# Altium schematic symbol library BWRC.SchLib: 201 symbols (part 1 of 6)
Pins are listed as number, name and electrical type; pins without a type are passive.

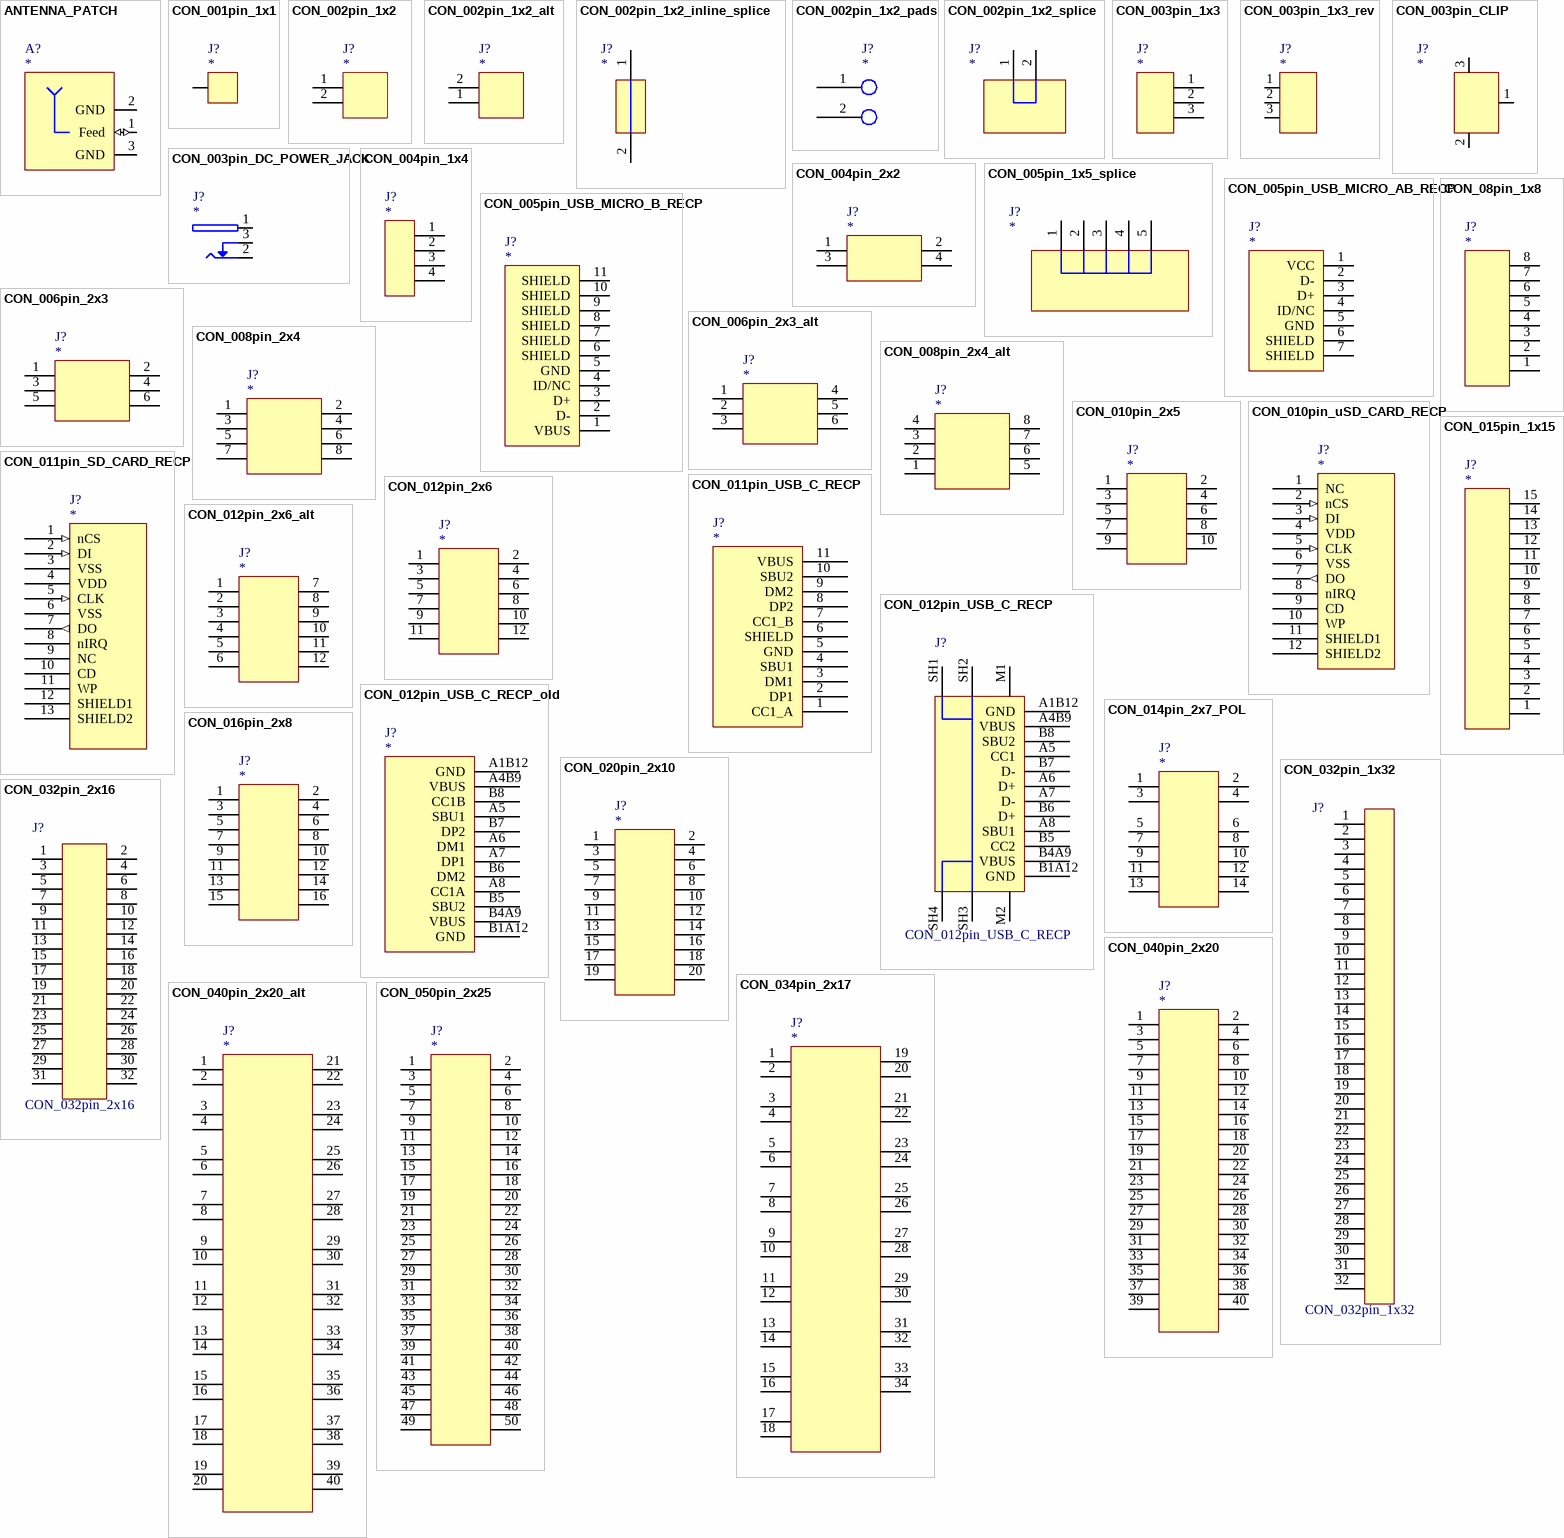
[diagram p0: symbols ANTENNA_PATCH to CON_050pin_2x25]

## ANTENNA_PATCH
designator A?
Patch antenna
pins: 1 Feed (io), 2 GND, 3 GND

## CON_001pin_1x1
designator J?
Con 1 pin
pins: 1

## CON_002pin_1x2
designator J?
Con 2 pins
pins: 1, 2

## CON_002pin_1x2_alt
designator J?
Con 2 pins
pins: 1, 2

## CON_002pin_1x2_inline_splice
designator J?
Con 2 inline splice
pins: 1, 2

## CON_002pin_1x2_pads
designator J?  (no BOM)
Con 2 pads
pins: 1, 2

## CON_002pin_1x2_splice
designator J?
Con 2 splice
pins: 1, 2

## CON_003pin_1x3
designator J?
Con 3 pins
pins: 1, 2, 3

## CON_003pin_1x3_rev
designator J?
Con 3 pins
pins: 1, 2, 3

## CON_003pin_CLIP
designator J?
Con 3 pins battery clip
pins: 1, 2, 3

## CON_003pin_DC_POWER_JACK
designator J?
Con 3 pin power jack
pins: 1 (power), 2, 3

## CON_004pin_1x4
designator J?
Con 4 pins 1x4
pins: 1, 2, 3, 4

## CON_004pin_2x2
designator J?
Con 4 pins 2x2
pins: 1, 2, 3, 4

## CON_005pin_1x5_splice
designator J?
Con 5 splice
pins: 1, 2, 3, 4, 5

## CON_005pin_USB_MICRO_AB_RECP
designator J?
Con 5 pin USB MicroAB receptacle
pins: 1 VCC, 2 D-, 3 D+, 4 ID/NC, 5 GND, 6 SHIELD, 7 SHIELD

## CON_005pin_USB_MICRO_B_RECP
designator J?
Con 5 pin USB Micro B receptacle
pins: 1 VBUS, 2 D-, 3 D+, 4 ID/NC, 5 GND, 6 SHIELD, 7 SHIELD, 8 SHIELD, 9 SHIELD, 10 SHIELD, 11 SHIELD

## CON_006pin_2x3
designator J?
Con 6 pins 2x3
pins: 1, 2, 3, 4, 5, 6

## CON_006pin_2x3_alt
designator J?
Con 6 pins 2x3
pins: 1, 2, 3, 4, 5, 6

## CON_08pin_1x8
designator J?
Con 8 pins
pins: 1, 2, 3, 4, 5, 6, 7, 8

## CON_008pin_2x4
designator J?
Con 8 pins 2x4
pins: 1, 2, 3, 4, 5, 6, 7, 8

## CON_008pin_2x4_alt
designator J?
Con 8 pins 2x4
pins: 1, 2, 3, 4, 5, 6, 7, 8

## CON_010pin_2x5
designator J?
Con 10 pins 2x5
pins: 1, 2, 3, 4, 5, 6, 7, 8, 9, 10

## CON_010pin_uSD_CARD_RECP
designator J?
Con 10 pins secure digital card slot (micro)
pins: 1 NC (hiz), 2 nCS (in), 3 DI (in), 4 VDD (power), 5 CLK (in), 6 VSS (power), 7 DO (out), 8 nIRQ (oc), 9 CD, 10 WP, 11 SHIELD1, 12 SHIELD2

## CON_011pin_SD_CARD_RECP
designator J?
Con 11 pins secure digital card slot (normal size)
pins: 1 nCS (in), 2 DI (in), 3 VSS (power), 4 VDD (power), 5 CLK (in), 6 VSS (power), 7 DO (out), 8 nIRQ (oc), 9 NC (hiz), 10 CD, 11 WP, 12 SHIELD1, 13 SHIELD2

## CON_011pin_USB_C_RECP
designator J?
Con 11 pin USB C receptacle
pins: 1 CC1_A, 2 DP1, 3 DM1, 4 SBU1, 5 GND, 6 SHIELD, 7 CC1_B, 8 DP2, 9 DM2, 10 SBU2, 11 VBUS

## CON_012pin_2x6
designator J?
Con 12 pins 2x6
pins: 1, 2, 3, 4, 5, 6, 7, 8, 9, 10, 11, 12

## CON_012pin_2x6_alt
designator J?
Con 12 pins 2x6
pins: 1, 2, 3, 4, 5, 6, 7, 8, 9, 10, 11, 12

## CON_012pin_USB_C_RECP
designator J?
Con 12 pin USB C receptacle + 4 shields, and 2 alignment posts
pins: A1B12 GND, A4B9 VBUS, A5 CC1, A6 D+, A7 D-, A8 SBU1, B1A12 GND, B4A9 VBUS, B5 CC2 (power), B6 D+, B7 D-, B8 SBU2, M1, M2, SH1, SH2, SH3, SH4

## CON_012pin_USB_C_RECP_old
designator J?
Con 12 pin USB C receptacle + 8 dummies, and 4 mounting posts
pins: A1B12 GND, A4B9 VBUS, A5 SBU1, A6 DM1, A7 DP1, A8 CC1A, B1A12 GND, B4A9 VBUS, B5 SBU2 (power), B6 DM2, B7 DP2, B8 CC1B

## CON_014pin_2x7_POL
designator J?
Con 14 pins 2x7 polarized
pins: 1, 2, 3, 4, 5, 6, 7, 8, 9, 10, 11, 12, 13, 14

## CON_015pin_1x15
designator J?
Con 15 pins
pins: 1, 2, 3, 4, 5, 6, 7, 8, 9, 10, 11, 12, 13, 14, 15

## CON_016pin_2x8
designator J?
Con 16 pins 2x8
pins: 1, 2, 3, 4, 5, 6, 7, 8, 9, 10, 11, 12, 13, 14, 15, 16

## CON_020pin_2x10
designator J?
Con 20 pins 2x10
pins: 1, 2, 3, 4, 5, 6, 7, 8, 9, 10, 11, 12, 13, 14, 15, 16, 17, 18, 19, 20

## CON_032pin_1x32
designator J?
Con 32 pins 1x32
pins: 1, 2, 3, 4, 5, 6, 7, 8, 9, 10, 11, 12, 13, 14, 15, 16, 17, 18, 19, 20, 21, 22, 23, 24, 25, 26, 27, 28, 29, 30, 31, 32

## CON_032pin_2x16
designator J?
Con 32pins 2x16
pins: 1, 2, 3, 4, 5, 6, 7, 8, 9, 10, 11, 12, 13, 14, 15, 16, 17, 18, 19, 20, 21, 22, 23, 24, 25, 26, 27, 28, 29, 30, 31, 32

## CON_034pin_2x17
designator J?
Con 34 pins 2x17
pins: 1, 2, 3, 4, 5, 6, 7, 8, 9, 10, 11, 12, 13, 14, 15, 16, 17, 18, 19, 20, 21, 22, 23, 24, 25, 26, 27, 28, 29, 30, 31, 32, 33, 34

## CON_040pin_2x20
designator J?
Con 40 pins 2x20
pins: 1, 2, 3, 4, 5, 6, 7, 8, 9, 10, 11, 12, 13, 14, 15, 16, 17, 18, 19, 20, 21, 22, 23, 24, 25, 26, 27, 28, 29, 30, 31, 32, 33, 34, 35, 36, 37, 38, 39, 40

## CON_040pin_2x20_alt
designator J?
Con 40 pins 2x20
pins: 1, 2, 3, 4, 5, 6, 7, 8, 9, 10, 11, 12, 13, 14, 15, 16, 17, 18, 19, 20, 21, 22, 23, 24, 25, 26, 27, 28, 29, 30, 31, 32, 33, 34, 35, 36, 37, 38, 39, 40

## CON_050pin_2x25
designator J?
Con 50 pins 2x25
pins: 1, 2, 3, 4, 5, 6, 7, 8, 9, 10, 11, 12, 13, 14, 15, 16, 17, 18, 19, 20, 21, 22, 23, 24, 25, 26, 27, 28, 29, 30, 31, 32, 33, 34, 35, 36, 37, 38, 39, 40, 41, 42, 43, 44, 45, 46, 47, 48, 49, 50

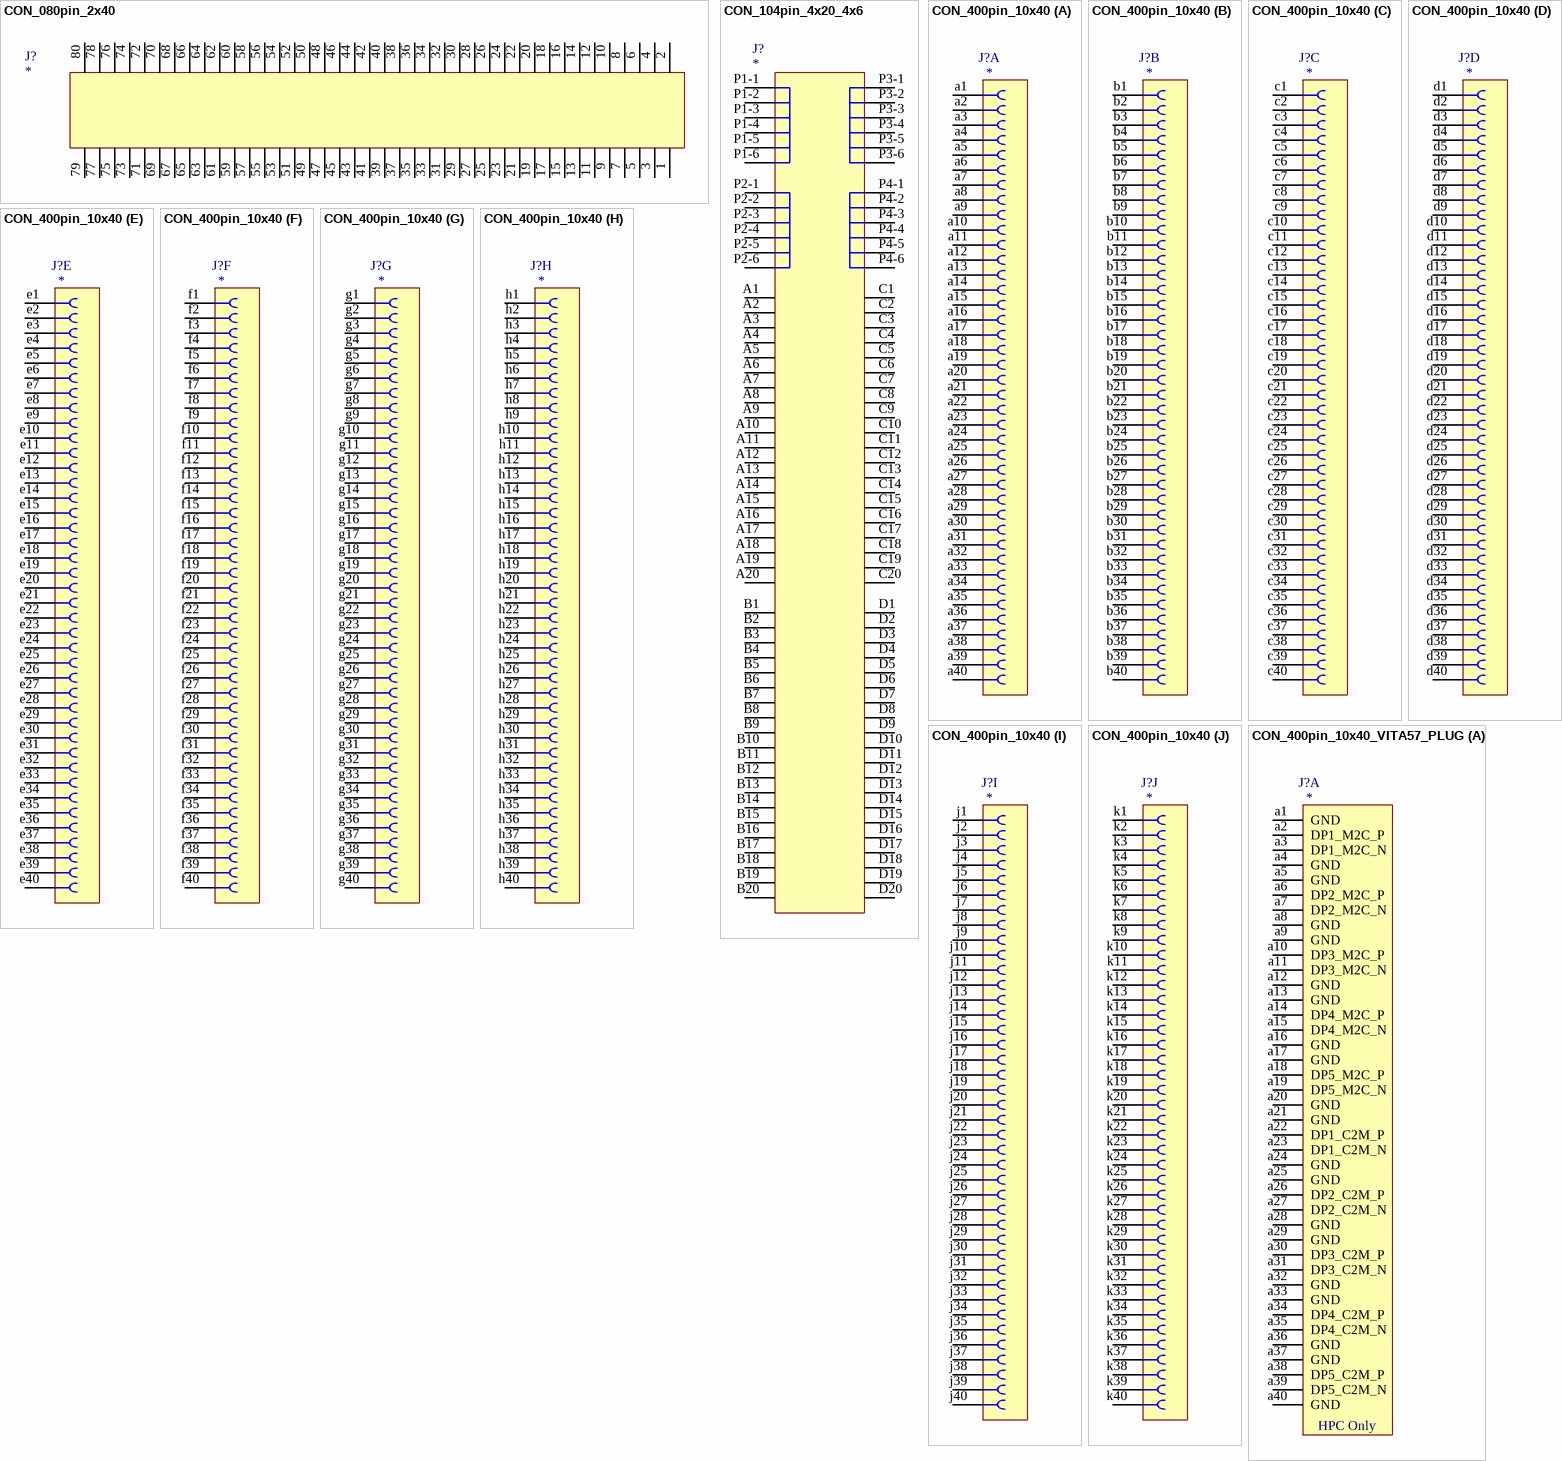
[diagram p1: symbols CON_080pin_2x40 to CON_400pin_10x40_VITA57_PLUG]

## CON_080pin_2x40
designator J?
Con 80 pins 2x40
pins: 1, 2, 3, 4, 5, 6, 7, 8, 9, 10, 11, 12, 13, 14, 15, 16, 17, 18, 19, 20, 21, 22, 23, 24, 25, 26, 27, 28, 29, 30, 31, 32, 33, 34, 35, 36, 37, 38, 39, 40, 41, 42, 43, 44, 45, 46, 47, 48, 49, 50, 51, 52, 53, 54, 55, 56, 57, 58, 59, 60, 61, 62, 63, 64, 65, 66, 67, 68, 69, 70, 71, 72, 73, 74, 75, 76, 77, 78, 79, 80

## CON_104pin_4x20_4x6
designator J?
Con 104 pins 4x20, 4 sets of 6 power - Samtec MPTC & MPSC
pins: A1, A2, A3, A4, A5, A6, A7, A8, A9, A10, A11, A12, A13, A14, A15, A16, A17, A18, A19, A20, B1, B2, B3, B4, B5, B6, B7, B8, B9, B10, B11, B12, B13, B14, B15, B16, B17, B18, B19, B20, C1, C2, C3, C4, C5, C6, C7, C8, C9, C10, C11, C12, C13, C14, C15, C16, C17, C18, C19, C20, D1, D2, D3, D4, D5, D6, D7, D8, D9, D10, D11, D12, D13, D14, D15, D16, D17, D18, D19, D20, P1-1 P1 (power), P1-2 P1 (power), P1-3 P1 (power), P1-4 P1 (power), P1-5 P1 (power), P1-6 P1 (power), P2-1 P2 (power), P2-2 P2 (power), P2-3 P2 (power), P2-4 P2 (power), P2-5 P2 (power), P2-6 P2 (power), P3-1 P3 (power), P3-2 P3 (power), P3-3 P3 (power), P3-4 P3 (power), P3-5 P3 (power), P3-6 P3 (power), P4-1 P4 (power), P4-2 P4 (power), P4-3 P4 (power), P4-4 P4 (power), P4-5 P4 (power), P4-6 P4 (power)

## CON_400pin_10x40
designator J?
Con 400 pins in 10 parts: abcdefghjk
part A pins: a1, a2, a3, a4, a5, a6, a7, a8, a9, a10, a11, a12, a13, a14, a15, a16, a17, a18, a19, a20, a21, a22, a23, a24, a25, a26, a27, a28, a29, a30, a31, a32, a33, a34, a35, a36, a37, a38, a39, a40
part B pins: b1, b2, b3, b4, b5, b6, b7, b8, b9, b10, b11, b12, b13, b14, b15, b16, b17, b18, b19, b20, b21, b22, b23, b24, b25, b26, b27, b28, b29, b30, b31, b32, b33, b34, b35, b36, b37, b38, b39, b40
part C pins: c1, c2, c3, c4, c5, c6, c7, c8, c9, c10, c11, c12, c13, c14, c15, c16, c17, c18, c19, c20, c21, c22, c23, c24, c25, c26, c27, c28, c29, c30, c31, c32, c33, c34, c35, c36, c37, c38, c39, c40
part D pins: d1, d2, d3, d4, d5, d6, d7, d8, d9, d10, d11, d12, d13, d14, d15, d16, d17, d18, d19, d20, d21, d22, d23, d24, d25, d26, d27, d28, d29, d30, d31, d32, d33, d34, d35, d36, d37, d38, d39, d40
part E pins: e1, e2, e3, e4, e5, e6, e7, e8, e9, e10, e11, e12, e13, e14, e15, e16, e17, e18, e19, e20, e21, e22, e23, e24, e25, e26, e27, e28, e29, e30, e31, e32, e33, e34, e35, e36, e37, e38, e39, e40
part F pins: f1, f2, f3, f4, f5, f6, f7, f8, f9, f10, f11, f12, f13, f14, f15, f16, f17, f18, f19, f20, f21, f22, f23, f24, f25, f26, f27, f28, f29, f30, f31, f32, f33, f34, f35, f36, f37, f38, f39, f40
part G pins: g1, g2, g3, g4, g5, g6, g7, g8, g9, g10, g11, g12, g13, g14, g15, g16, g17, g18, g19, g20, g21, g22, g23, g24, g25, g26, g27, g28, g29, g30, g31, g32, g33, g34, g35, g36, g37, g38, g39, g40
part H pins: h1, h2, h3, h4, h5, h6, h7, h8, h9, h10, h11, h12, h13, h14, h15, h16, h17, h18, h19, h20, h21, h22, h23, h24, h25, h26, h27, h28, h29, h30, h31, h32, h33, h34, h35, h36, h37, h38, h39, h40
part I pins: j1, j2, j3, j4, j5, j6, j7, j8, j9, j10, j11, j12, j13, j14, j15, j16, j17, j18, j19, j20, j21, j22, j23, j24, j25, j26, j27, j28, j29, j30, j31, j32, j33, j34, j35, j36, j37, j38, j39, j40
part J pins: k1, k2, k3, k4, k5, k6, k7, k8, k9, k10, k11, k12, k13, k14, k15, k16, k17, k18, k19, k20, k21, k22, k23, k24, k25, k26, k27, k28, k29, k30, k31, k32, k33, k34, k35, k36, k37, k38, k39, k40

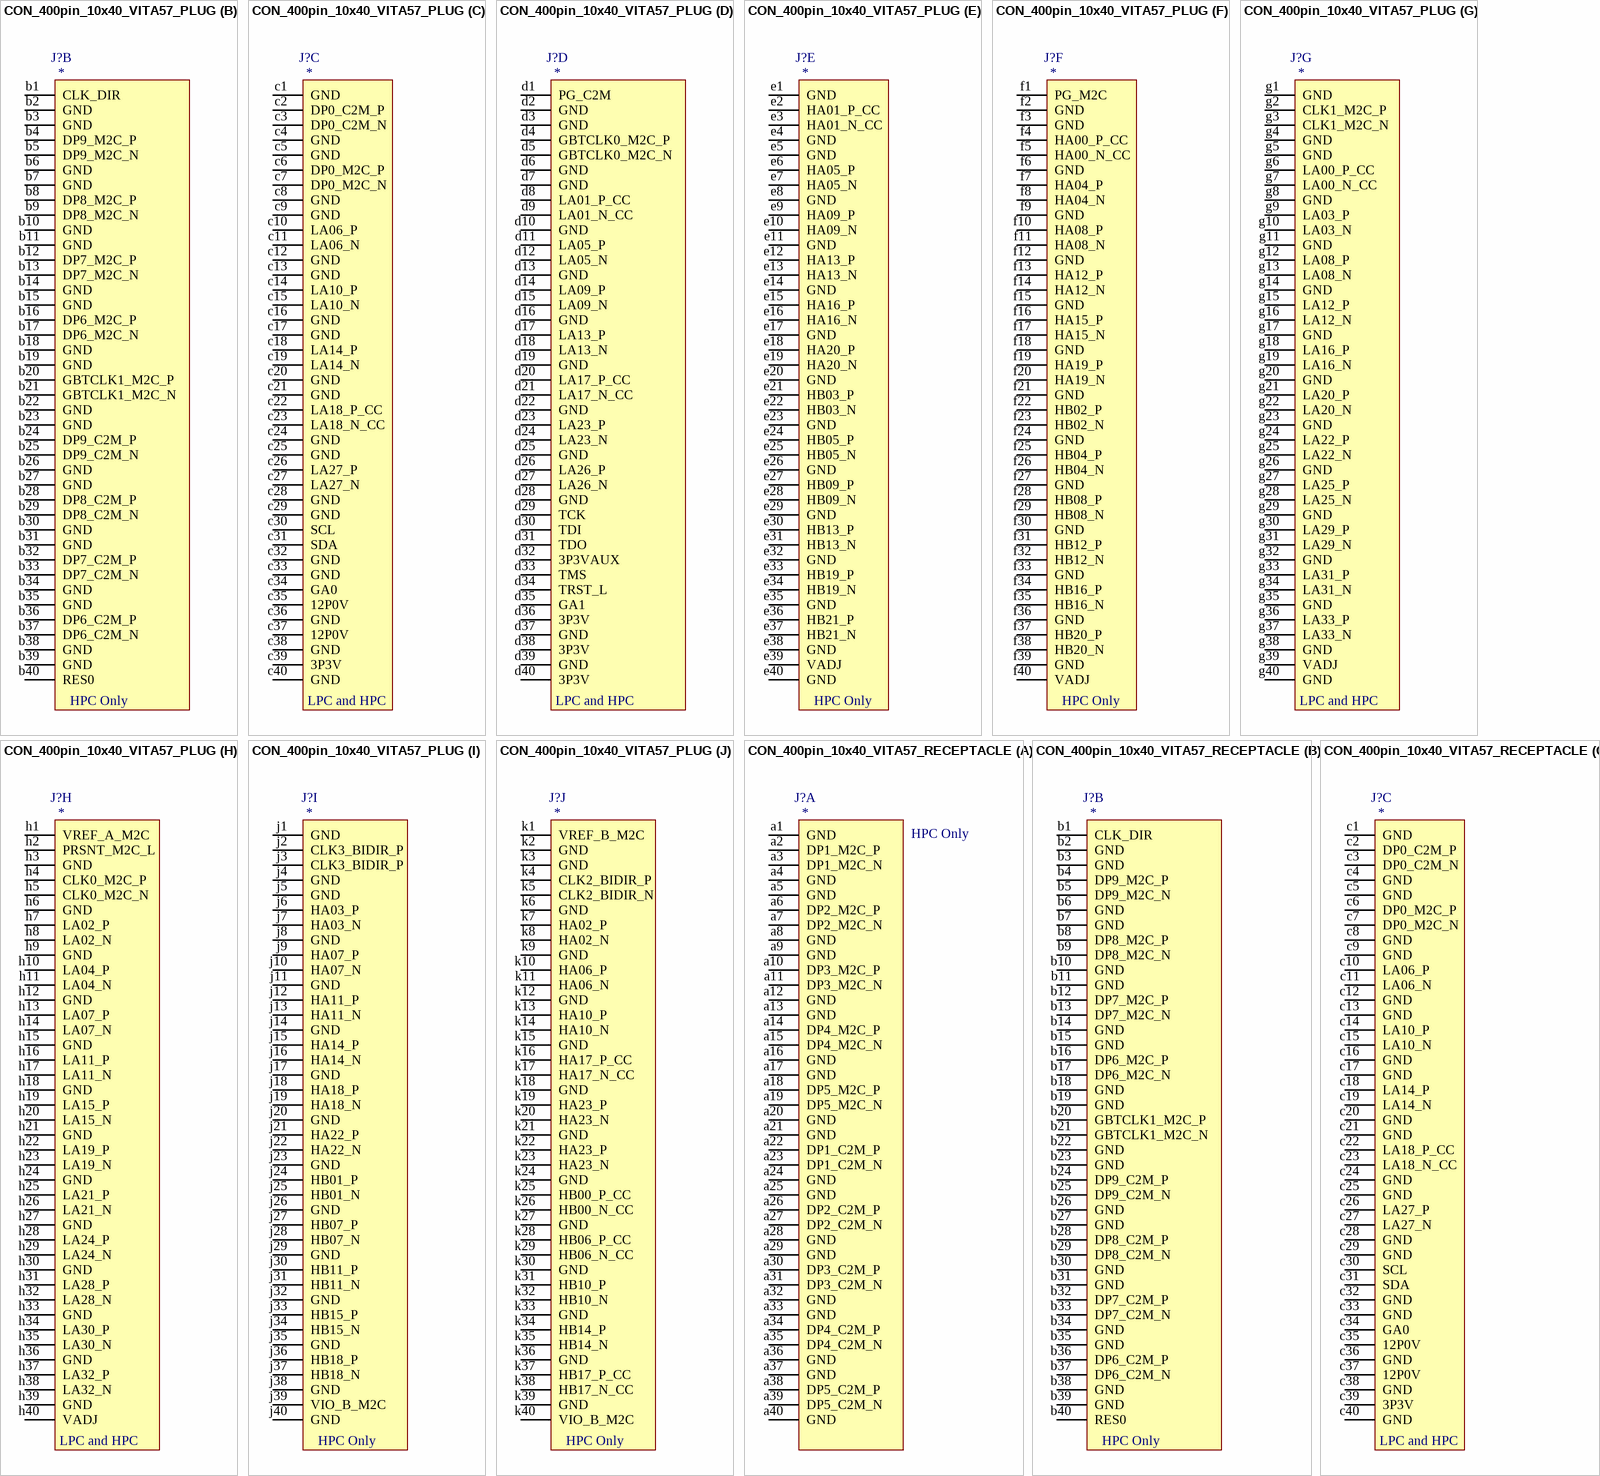
[diagram p2: symbols CON_400pin_10x40_VITA57_PLUG to CON_400pin_10x40_VITA57_RECEPTACLE]

## CON_400pin_10x40_VITA57_PLUG
designator J?
Con VITA 57, 400 male contacts in 10 parts abcdefghjk
part A pins: a1 GND, a2 DP1_M2C_P, a3 DP1_M2C_N, a4 GND, a5 GND, a6 DP2_M2C_P, a7 DP2_M2C_N, a8 GND, a9 GND, a10 DP3_M2C_P, a11 DP3_M2C_N, a12 GND, a13 GND, a14 DP4_M2C_P, a15 DP4_M2C_N, a16 GND, a17 GND, a18 DP5_M2C_P, a19 DP5_M2C_N, a20 GND, a21 GND, a22 DP1_C2M_P, a23 DP1_C2M_N, a24 GND, a25 GND, a26 DP2_C2M_P, a27 DP2_C2M_N, a28 GND, a29 GND, a30 DP3_C2M_P, a31 DP3_C2M_N, a32 GND, a33 GND, a34 DP4_C2M_P, a35 DP4_C2M_N, a36 GND, a37 GND, a38 DP5_C2M_P, a39 DP5_C2M_N, a40 GND
part B pins: b1 CLK_DIR, b2 GND, b3 GND, b4 DP9_M2C_P, b5 DP9_M2C_N, b6 GND, b7 GND, b8 DP8_M2C_P, b9 DP8_M2C_N, b10 GND, b11 GND, b12 DP7_M2C_P, b13 DP7_M2C_N, b14 GND, b15 GND, b16 DP6_M2C_P, b17 DP6_M2C_N, b18 GND, b19 GND, b20 GBTCLK1_M2C_P, b21 GBTCLK1_M2C_N, b22 GND, b23 GND, b24 DP9_C2M_P, b25 DP9_C2M_N, b26 GND, b27 GND, b28 DP8_C2M_P, b29 DP8_C2M_N, b30 GND, b31 GND, b32 DP7_C2M_P, b33 DP7_C2M_N, b34 GND, b35 GND, b36 DP6_C2M_P, b37 DP6_C2M_N, b38 GND, b39 GND, b40 RES0
part C pins: c1 GND, c2 DP0_C2M_P, c3 DP0_C2M_N, c4 GND, c5 GND, c6 DP0_M2C_P, c7 DP0_M2C_N, c8 GND, c9 GND, c10 LA06_P, c11 LA06_N, c12 GND, c13 GND, c14 LA10_P, c15 LA10_N, c16 GND, c17 GND, c18 LA14_P, c19 LA14_N, c20 GND, c21 GND, c22 LA18_P_CC, c23 LA18_N_CC, c24 GND, c25 GND, c26 LA27_P, c27 LA27_N, c28 GND, c29 GND, c30 SCL, c31 SDA, c32 GND, c33 GND, c34 GA0, c35 12P0V, c36 GND, c37 12P0V, c38 GND, c39 3P3V, c40 GND
part D pins: d1 PG_C2M, d2 GND, d3 GND, d4 GBTCLK0_M2C_P, d5 GBTCLK0_M2C_N, d6 GND, d7 GND, d8 LA01_P_CC, d9 LA01_N_CC, d10 GND, d11 LA05_P, d12 LA05_N, d13 GND, d14 LA09_P, d15 LA09_N, d16 GND, d17 LA13_P, d18 LA13_N, d19 GND, d20 LA17_P_CC, d21 LA17_N_CC, d22 GND, d23 LA23_P, d24 LA23_N, d25 GND, d26 LA26_P, d27 LA26_N, d28 GND, d29 TCK, d30 TDI, d31 TDO, d32 3P3VAUX, d33 TMS, d34 TRST_L, d35 GA1, d36 3P3V, d37 GND, d38 3P3V, d39 GND, d40 3P3V
part E pins: e1 GND, e2 HA01_P_CC, e3 HA01_N_CC, e4 GND, e5 GND, e6 HA05_P, e7 HA05_N, e8 GND, e9 HA09_P, e10 HA09_N, e11 GND, e12 HA13_P, e13 HA13_N, e14 GND, e15 HA16_P, e16 HA16_N, e17 GND, e18 HA20_P, e19 HA20_N, e20 GND, e21 HB03_P, e22 HB03_N, e23 GND, e24 HB05_P, e25 HB05_N, e26 GND, e27 HB09_P, e28 HB09_N, e29 GND, e30 HB13_P, e31 HB13_N, e32 GND, e33 HB19_P, e34 HB19_N, e35 GND, e36 HB21_P, e37 HB21_N, e38 GND, e39 VADJ, e40 GND
part F pins: f1 PG_M2C, f2 GND, f3 GND, f4 HA00_P_CC, f5 HA00_N_CC, f6 GND, f7 HA04_P, f8 HA04_N, f9 GND, f10 HA08_P, f11 HA08_N, f12 GND, f13 HA12_P, f14 HA12_N, f15 GND, f16 HA15_P, f17 HA15_N, f18 GND, f19 HA19_P, f20 HA19_N, f21 GND, f22 HB02_P, f23 HB02_N, f24 GND, f25 HB04_P, f26 HB04_N, f27 GND, f28 HB08_P, f29 HB08_N, f30 GND, f31 HB12_P, f32 HB12_N, f33 GND, f34 HB16_P, f35 HB16_N, f36 GND, f37 HB20_P, f38 HB20_N, f39 GND, f40 VADJ
part G pins: g1 GND, g2 CLK1_M2C_P, g3 CLK1_M2C_N, g4 GND, g5 GND, g6 LA00_P_CC, g7 LA00_N_CC, g8 GND, g9 LA03_P, g10 LA03_N, g11 GND, g12 LA08_P, g13 LA08_N, g14 GND, g15 LA12_P, g16 LA12_N, g17 GND, g18 LA16_P, g19 LA16_N, g20 GND, g21 LA20_P, g22 LA20_N, g23 GND, g24 LA22_P, g25 LA22_N, g26 GND, g27 LA25_P, g28 LA25_N, g29 GND, g30 LA29_P, g31 LA29_N, g32 GND, g33 LA31_P, g34 LA31_N, g35 GND, g36 LA33_P, g37 LA33_N, g38 GND, g39 VADJ, g40 GND
part H pins: h1 VREF_A_M2C, h2 PRSNT_M2C_L, h3 GND, h4 CLK0_M2C_P, h5 CLK0_M2C_N, h6 GND, h7 LA02_P, h8 LA02_N, h9 GND, h10 LA04_P, h11 LA04_N, h12 GND, h13 LA07_P, h14 LA07_N, h15 GND, h16 LA11_P, h17 LA11_N, h18 GND, h19 LA15_P, h20 LA15_N, h21 GND, h22 LA19_P, h23 LA19_N, h24 GND, h25 LA21_P, h26 LA21_N, h27 GND, h28 LA24_P, h29 LA24_N, h30 GND, h31 LA28_P, h32 LA28_N, h33 GND, h34 LA30_P, h35 LA30_N, h36 GND, h37 LA32_P, h38 LA32_N, h39 GND, h40 VADJ
part I pins: j1 GND, j2 CLK3_BIDIR_P, j3 CLK3_BIDIR_P, j4 GND, j5 GND, j6 HA03_P, j7 HA03_N, j8 GND, j9 HA07_P, j10 HA07_N, j11 GND, j12 HA11_P, j13 HA11_N, j14 GND, j15 HA14_P, j16 HA14_N, j17 GND, j18 HA18_P, j19 HA18_N, j20 GND, j21 HA22_P, j22 HA22_N, j23 GND, j24 HB01_P, j25 HB01_N, j26 GND, j27 HB07_P, j28 HB07_N, j29 GND, j30 HB11_P, j31 HB11_N, j32 GND, j33 HB15_P, j34 HB15_N, j35 GND, j36 HB18_P, j37 HB18_N, j38 GND, j39 VIO_B_M2C, j40 GND
part J pins: k1 VREF_B_M2C, k2 GND, k3 GND, k4 CLK2_BIDIR_P, k5 CLK2_BIDIR_N, k6 GND, k7 HA02_P, k8 HA02_N, k9 GND, k10 HA06_P, k11 HA06_N, k12 GND, k13 HA10_P, k14 HA10_N, k15 GND, k16 HA17_P_CC, k17 HA17_N_CC, k18 GND, k19 HA23_P, k20 HA23_N, k21 GND, k22 HA23_P, k23 HA23_N, k24 GND, k25 HB00_P_CC, k26 HB00_N_CC, k27 GND, k28 HB06_P_CC, k29 HB06_N_CC, k30 GND, k31 HB10_P, k32 HB10_N, k33 GND, k34 HB14_P, k35 HB14_N, k36 GND, k37 HB17_P_CC, k38 HB17_N_CC, k39 GND, k40 VIO_B_M2C
part A text: HPC Only
part B text: HPC Only
part C text: LPC and HPC
part D text: LPC and HPC
part E text: HPC Only
part F text: HPC Only
part G text: LPC and HPC
part H text: LPC and HPC
part I text: HPC Only
part J text: HPC Only

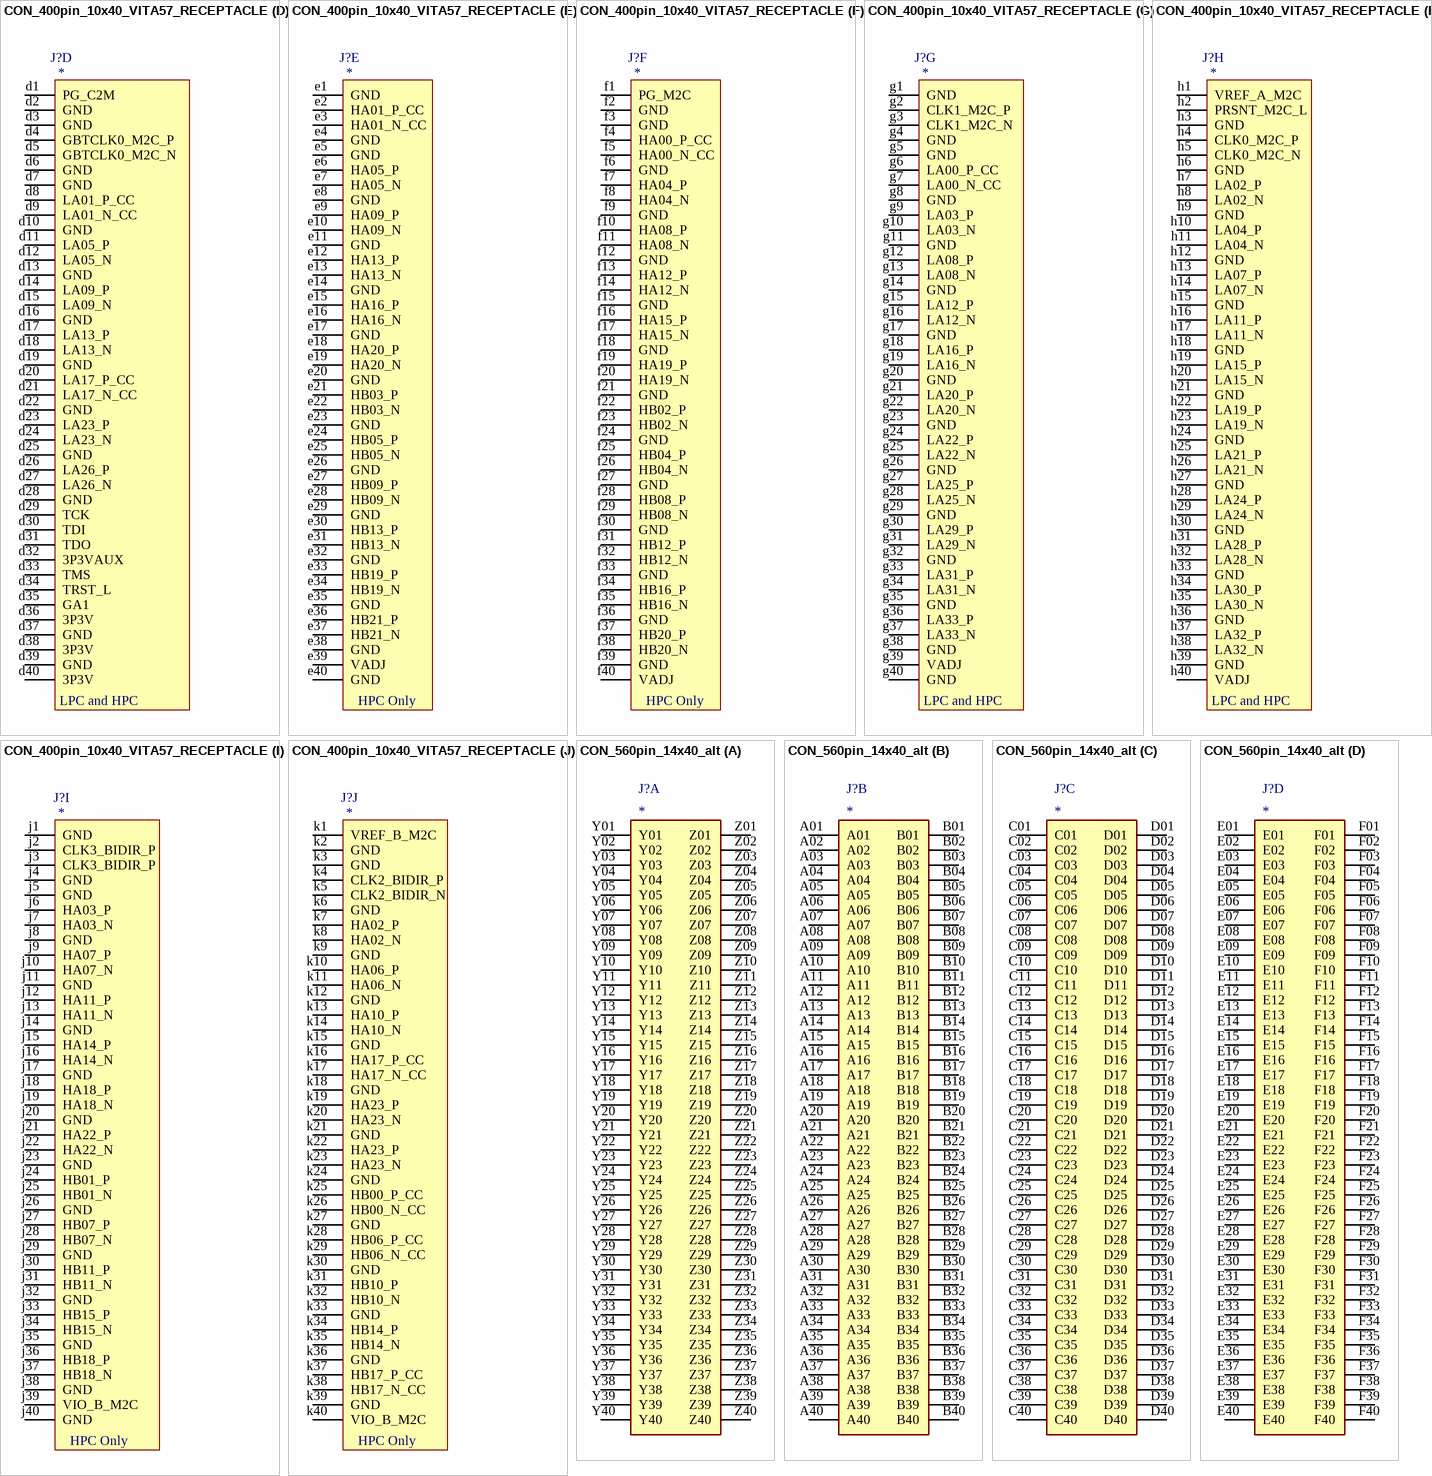
[diagram p3: symbols CON_400pin_10x40_VITA57_RECEPTACLE to CON_560pin_14x40_alt]

## CON_400pin_10x40_VITA57_RECEPTACLE
designator J?
Con VITA 57, 400 female contacts in 10 parts abcdefghjk
part A pins: a1 GND, a2 DP1_M2C_P, a3 DP1_M2C_N, a4 GND, a5 GND, a6 DP2_M2C_P, a7 DP2_M2C_N, a8 GND, a9 GND, a10 DP3_M2C_P, a11 DP3_M2C_N, a12 GND, a13 GND, a14 DP4_M2C_P, a15 DP4_M2C_N, a16 GND, a17 GND, a18 DP5_M2C_P, a19 DP5_M2C_N, a20 GND, a21 GND, a22 DP1_C2M_P, a23 DP1_C2M_N, a24 GND, a25 GND, a26 DP2_C2M_P, a27 DP2_C2M_N, a28 GND, a29 GND, a30 DP3_C2M_P, a31 DP3_C2M_N, a32 GND, a33 GND, a34 DP4_C2M_P, a35 DP4_C2M_N, a36 GND, a37 GND, a38 DP5_C2M_P, a39 DP5_C2M_N, a40 GND
part B pins: b1 CLK_DIR, b2 GND, b3 GND, b4 DP9_M2C_P, b5 DP9_M2C_N, b6 GND, b7 GND, b8 DP8_M2C_P, b9 DP8_M2C_N, b10 GND, b11 GND, b12 DP7_M2C_P, b13 DP7_M2C_N, b14 GND, b15 GND, b16 DP6_M2C_P, b17 DP6_M2C_N, b18 GND, b19 GND, b20 GBTCLK1_M2C_P, b21 GBTCLK1_M2C_N, b22 GND, b23 GND, b24 DP9_C2M_P, b25 DP9_C2M_N, b26 GND, b27 GND, b28 DP8_C2M_P, b29 DP8_C2M_N, b30 GND, b31 GND, b32 DP7_C2M_P, b33 DP7_C2M_N, b34 GND, b35 GND, b36 DP6_C2M_P, b37 DP6_C2M_N, b38 GND, b39 GND, b40 RES0
part C pins: c1 GND, c2 DP0_C2M_P, c3 DP0_C2M_N, c4 GND, c5 GND, c6 DP0_M2C_P, c7 DP0_M2C_N, c8 GND, c9 GND, c10 LA06_P, c11 LA06_N, c12 GND, c13 GND, c14 LA10_P, c15 LA10_N, c16 GND, c17 GND, c18 LA14_P, c19 LA14_N, c20 GND, c21 GND, c22 LA18_P_CC, c23 LA18_N_CC, c24 GND, c25 GND, c26 LA27_P, c27 LA27_N, c28 GND, c29 GND, c30 SCL, c31 SDA, c32 GND, c33 GND, c34 GA0, c35 12P0V, c36 GND, c37 12P0V, c38 GND, c39 3P3V, c40 GND
part D pins: d1 PG_C2M, d2 GND, d3 GND, d4 GBTCLK0_M2C_P, d5 GBTCLK0_M2C_N, d6 GND, d7 GND, d8 LA01_P_CC, d9 LA01_N_CC, d10 GND, d11 LA05_P, d12 LA05_N, d13 GND, d14 LA09_P, d15 LA09_N, d16 GND, d17 LA13_P, d18 LA13_N, d19 GND, d20 LA17_P_CC, d21 LA17_N_CC, d22 GND, d23 LA23_P, d24 LA23_N, d25 GND, d26 LA26_P, d27 LA26_N, d28 GND, d29 TCK, d30 TDI, d31 TDO, d32 3P3VAUX, d33 TMS, d34 TRST_L, d35 GA1, d36 3P3V, d37 GND, d38 3P3V, d39 GND, d40 3P3V
part E pins: e1 GND, e2 HA01_P_CC, e3 HA01_N_CC, e4 GND, e5 GND, e6 HA05_P, e7 HA05_N, e8 GND, e9 HA09_P, e10 HA09_N, e11 GND, e12 HA13_P, e13 HA13_N, e14 GND, e15 HA16_P, e16 HA16_N, e17 GND, e18 HA20_P, e19 HA20_N, e20 GND, e21 HB03_P, e22 HB03_N, e23 GND, e24 HB05_P, e25 HB05_N, e26 GND, e27 HB09_P, e28 HB09_N, e29 GND, e30 HB13_P, e31 HB13_N, e32 GND, e33 HB19_P, e34 HB19_N, e35 GND, e36 HB21_P, e37 HB21_N, e38 GND, e39 VADJ, e40 GND
part F pins: f1 PG_M2C, f2 GND, f3 GND, f4 HA00_P_CC, f5 HA00_N_CC, f6 GND, f7 HA04_P, f8 HA04_N, f9 GND, f10 HA08_P, f11 HA08_N, f12 GND, f13 HA12_P, f14 HA12_N, f15 GND, f16 HA15_P, f17 HA15_N, f18 GND, f19 HA19_P, f20 HA19_N, f21 GND, f22 HB02_P, f23 HB02_N, f24 GND, f25 HB04_P, f26 HB04_N, f27 GND, f28 HB08_P, f29 HB08_N, f30 GND, f31 HB12_P, f32 HB12_N, f33 GND, f34 HB16_P, f35 HB16_N, f36 GND, f37 HB20_P, f38 HB20_N, f39 GND, f40 VADJ
part G pins: g1 GND, g2 CLK1_M2C_P, g3 CLK1_M2C_N, g4 GND, g5 GND, g6 LA00_P_CC, g7 LA00_N_CC, g8 GND, g9 LA03_P, g10 LA03_N, g11 GND, g12 LA08_P, g13 LA08_N, g14 GND, g15 LA12_P, g16 LA12_N, g17 GND, g18 LA16_P, g19 LA16_N, g20 GND, g21 LA20_P, g22 LA20_N, g23 GND, g24 LA22_P, g25 LA22_N, g26 GND, g27 LA25_P, g28 LA25_N, g29 GND, g30 LA29_P, g31 LA29_N, g32 GND, g33 LA31_P, g34 LA31_N, g35 GND, g36 LA33_P, g37 LA33_N, g38 GND, g39 VADJ, g40 GND
part H pins: h1 VREF_A_M2C, h2 PRSNT_M2C_L, h3 GND, h4 CLK0_M2C_P, h5 CLK0_M2C_N, h6 GND, h7 LA02_P, h8 LA02_N, h9 GND, h10 LA04_P, h11 LA04_N, h12 GND, h13 LA07_P, h14 LA07_N, h15 GND, h16 LA11_P, h17 LA11_N, h18 GND, h19 LA15_P, h20 LA15_N, h21 GND, h22 LA19_P, h23 LA19_N, h24 GND, h25 LA21_P, h26 LA21_N, h27 GND, h28 LA24_P, h29 LA24_N, h30 GND, h31 LA28_P, h32 LA28_N, h33 GND, h34 LA30_P, h35 LA30_N, h36 GND, h37 LA32_P, h38 LA32_N, h39 GND, h40 VADJ
part I pins: j1 GND, j2 CLK3_BIDIR_P, j3 CLK3_BIDIR_P, j4 GND, j5 GND, j6 HA03_P, j7 HA03_N, j8 GND, j9 HA07_P, j10 HA07_N, j11 GND, j12 HA11_P, j13 HA11_N, j14 GND, j15 HA14_P, j16 HA14_N, j17 GND, j18 HA18_P, j19 HA18_N, j20 GND, j21 HA22_P, j22 HA22_N, j23 GND, j24 HB01_P, j25 HB01_N, j26 GND, j27 HB07_P, j28 HB07_N, j29 GND, j30 HB11_P, j31 HB11_N, j32 GND, j33 HB15_P, j34 HB15_N, j35 GND, j36 HB18_P, j37 HB18_N, j38 GND, j39 VIO_B_M2C, j40 GND
part J pins: k1 VREF_B_M2C, k2 GND, k3 GND, k4 CLK2_BIDIR_P, k5 CLK2_BIDIR_N, k6 GND, k7 HA02_P, k8 HA02_N, k9 GND, k10 HA06_P, k11 HA06_N, k12 GND, k13 HA10_P, k14 HA10_N, k15 GND, k16 HA17_P_CC, k17 HA17_N_CC, k18 GND, k19 HA23_P, k20 HA23_N, k21 GND, k22 HA23_P, k23 HA23_N, k24 GND, k25 HB00_P_CC, k26 HB00_N_CC, k27 GND, k28 HB06_P_CC, k29 HB06_N_CC, k30 GND, k31 HB10_P, k32 HB10_N, k33 GND, k34 HB14_P, k35 HB14_N, k36 GND, k37 HB17_P_CC, k38 HB17_N_CC, k39 GND, k40 VIO_B_M2C
part A text: HPC Only
part B text: HPC Only
part C text: LPC and HPC
part D text: LPC and HPC
part E text: HPC Only
part F text: HPC Only
part G text: LPC and HPC
part H text: LPC and HPC
part I text: HPC Only
part J text: HPC Only

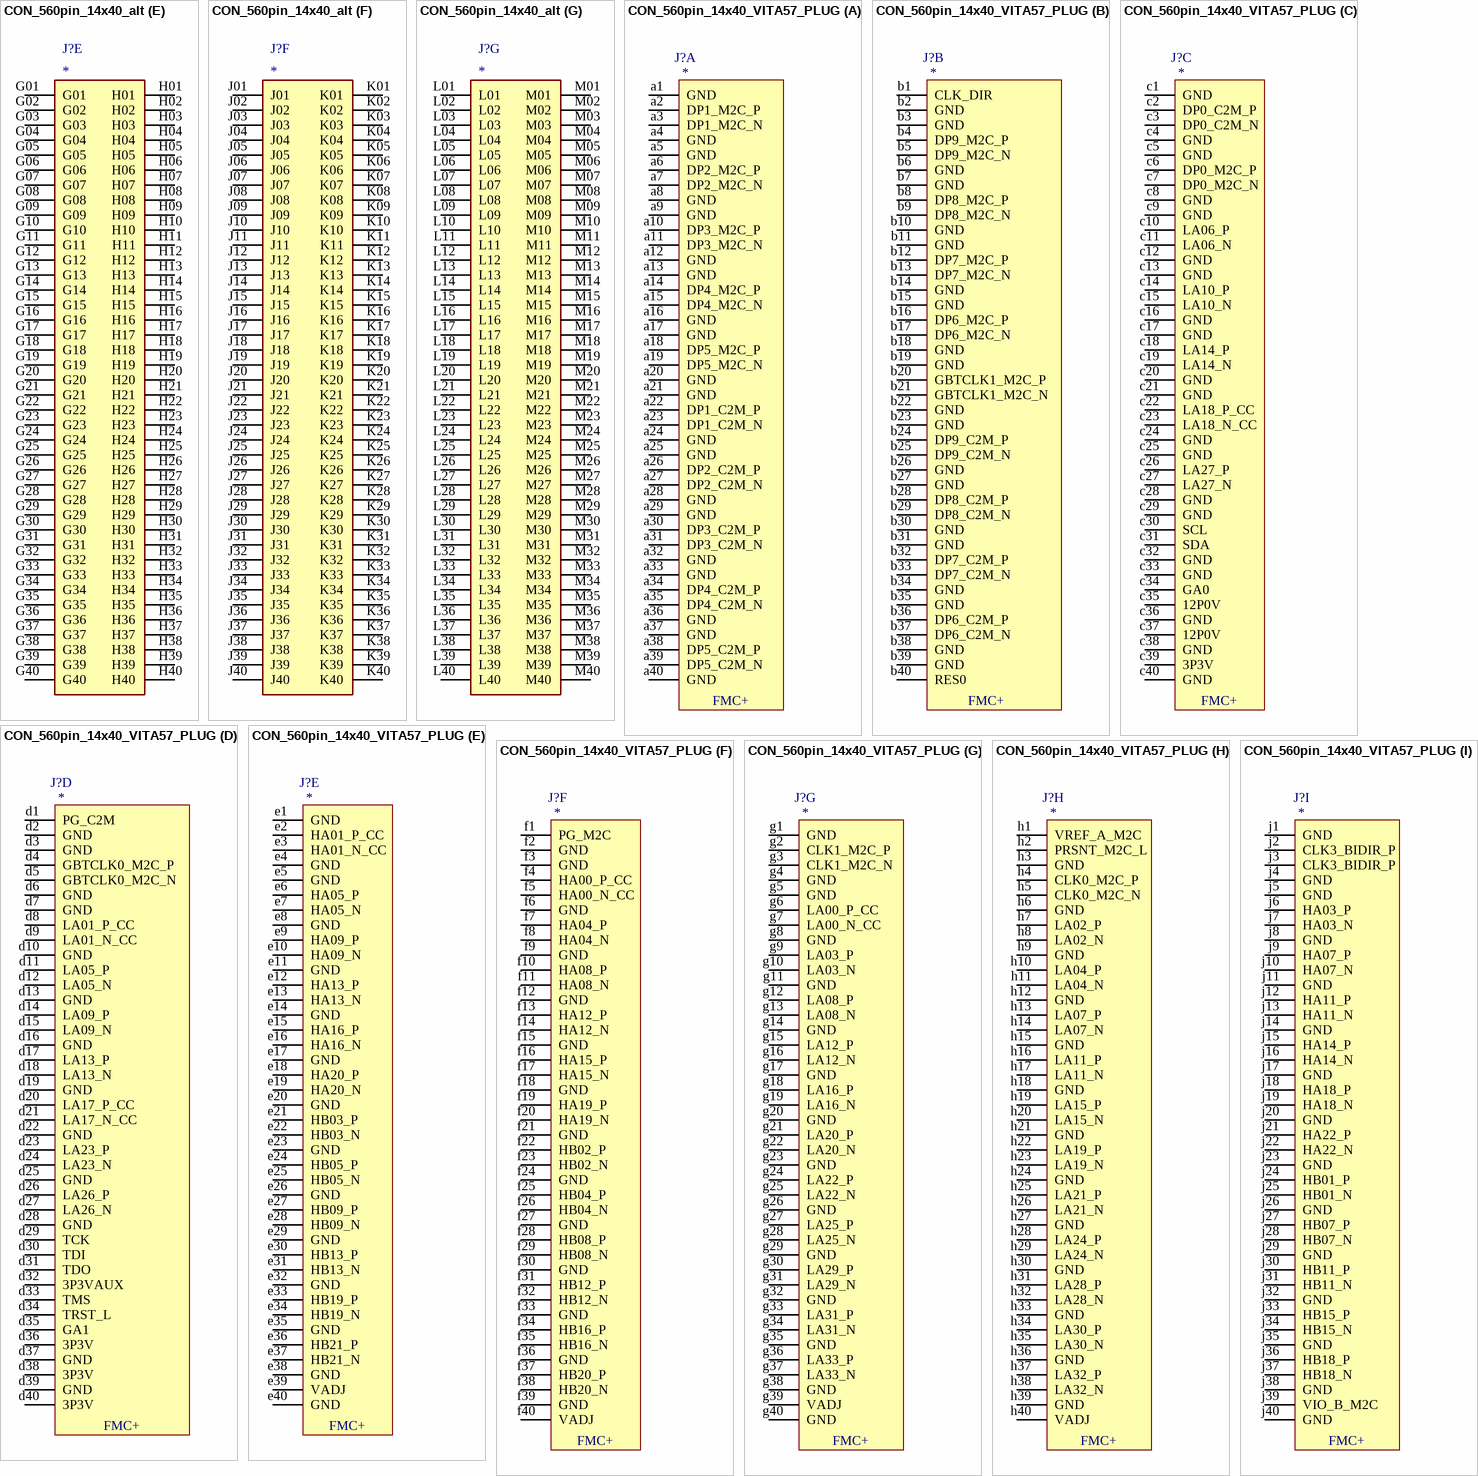
[diagram p4: symbols CON_560pin_14x40_alt to CON_560pin_14x40_VITA57_PLUG]

## CON_560pin_14x40_alt
designator J?
Con VITA 57.4 (FMC+) 560 female contacts in 7 parts:  yzabcedfghjklm
part A pins: Y01, Y02, Y03, Y04, Y05, Y06, Y07, Y08, Y09, Y10, Y11, Y12, Y13, Y14, Y15, Y16, Y17, Y18, Y19, Y20, Y21, Y22, Y23, Y24, Y25, Y26, Y27, Y28, Y29, Y30, Y31, Y32, Y33, Y34, Y35, Y36, Y37, Y38, Y39, Y40, Z01, Z02, Z03, Z04, Z05, Z06, Z07, Z08, Z09, Z10, Z11, Z12, Z13, Z14, Z15, Z16, Z17, Z18, Z19, Z20, Z21, Z22, Z23, Z24, Z25, Z26, Z27, Z28, Z29, Z30, Z31, Z32, Z33, Z34, Z35, Z36, Z37, Z38, Z39, Z40
part B pins: A01, A02, A03, A04, A05, A06, A07, A08, A09, A10, A11, A12, A13, A14, A15, A16, A17, A18, A19, A20, A21, A22, A23, A24, A25, A26, A27, A28, A29, A30, A31, A32, A33, A34, A35, A36, A37, A38, A39, A40, B01, B02, B03, B04, B05, B06, B07, B08, B09, B10, B11, B12, B13, B14, B15, B16, B17, B18, B19, B20, B21, B22, B23, B24, B25, B26, B27, B28, B29, B30, B31, B32, B33, B34, B35, B36, B37, B38, B39, B40
part C pins: C01, C02, C03, C04, C05, C06, C07, C08, C09, C10, C11, C12, C13, C14, C15, C16, C17, C18, C19, C20, C21, C22, C23, C24, C25, C26, C27, C28, C29, C30, C31, C32, C33, C34, C35, C36, C37, C38, C39, C40, D01, D02, D03, D04, D05, D06, D07, D08, D09, D10, D11, D12, D13, D14, D15, D16, D17, D18, D19, D20, D21, D22, D23, D24, D25, D26, D27, D28, D29, D30, D31, D32, D33, D34, D35, D36, D37, D38, D39, D40
part D pins: E01, E02, E03, E04, E05, E06, E07, E08, E09, E10, E11, E12, E13, E14, E15, E16, E17, E18, E19, E20, E21, E22, E23, E24, E25, E26, E27, E28, E29, E30, E31, E32, E33, E34, E35, E36, E37, E38, E39, E40, F01, F02, F03, F04, F05, F06, F07, F08, F09, F10, F11, F12, F13, F14, F15, F16, F17, F18, F19, F20, F21, F22, F23, F24, F25, F26, F27, F28, F29, F30, F31, F32, F33, F34, F35, F36, F37, F38, F39, F40
part E pins: G01, G02, G03, G04, G05, G06, G07, G08, G09, G10, G11, G12, G13, G14, G15, G16, G17, G18, G19, G20, G21, G22, G23, G24, G25, G26, G27, G28, G29, G30, G31, G32, G33, G34, G35, G36, G37, G38, G39, G40, H01, H02, H03, H04, H05, H06, H07, H08, H09, H10, H11, H12, H13, H14, H15, H16, H17, H18, H19, H20, H21, H22, H23, H24, H25, H26, H27, H28, H29, H30, H31, H32, H33, H34, H35, H36, H37, H38, H39, H40
part F pins: J01, J02, J03, J04, J05, J06, J07, J08, J09, J10, J11, J12, J13, J14, J15, J16, J17, J18, J19, J20, J21, J22, J23, J24, J25, J26, J27, J28, J29, J30, J31, J32, J33, J34, J35, J36, J37, J38, J39, J40, K01, K02, K03, K04, K05, K06, K07, K08, K09, K10, K11, K12, K13, K14, K15, K16, K17, K18, K19, K20, K21, K22, K23, K24, K25, K26, K27, K28, K29, K30, K31, K32, K33, K34, K35, K36, K37, K38, K39, K40
part G pins: L01, L02, L03, L04, L05, L06, L07, L08, L09, L10, L11, L12, L13, L14, L15, L16, L17, L18, L19, L20, L21, L22, L23, L24, L25, L26, L27, L28, L29, L30, L31, L32, L33, L34, L35, L36, L37, L38, L39, L40, M01, M02, M03, M04, M05, M06, M07, M08, M09, M10, M11, M12, M13, M14, M15, M16, M17, M18, M19, M20, M21, M22, M23, M24, M25, M26, M27, M28, M29, M30, M31, M32, M33, M34, M35, M36, M37, M38, M39, M40

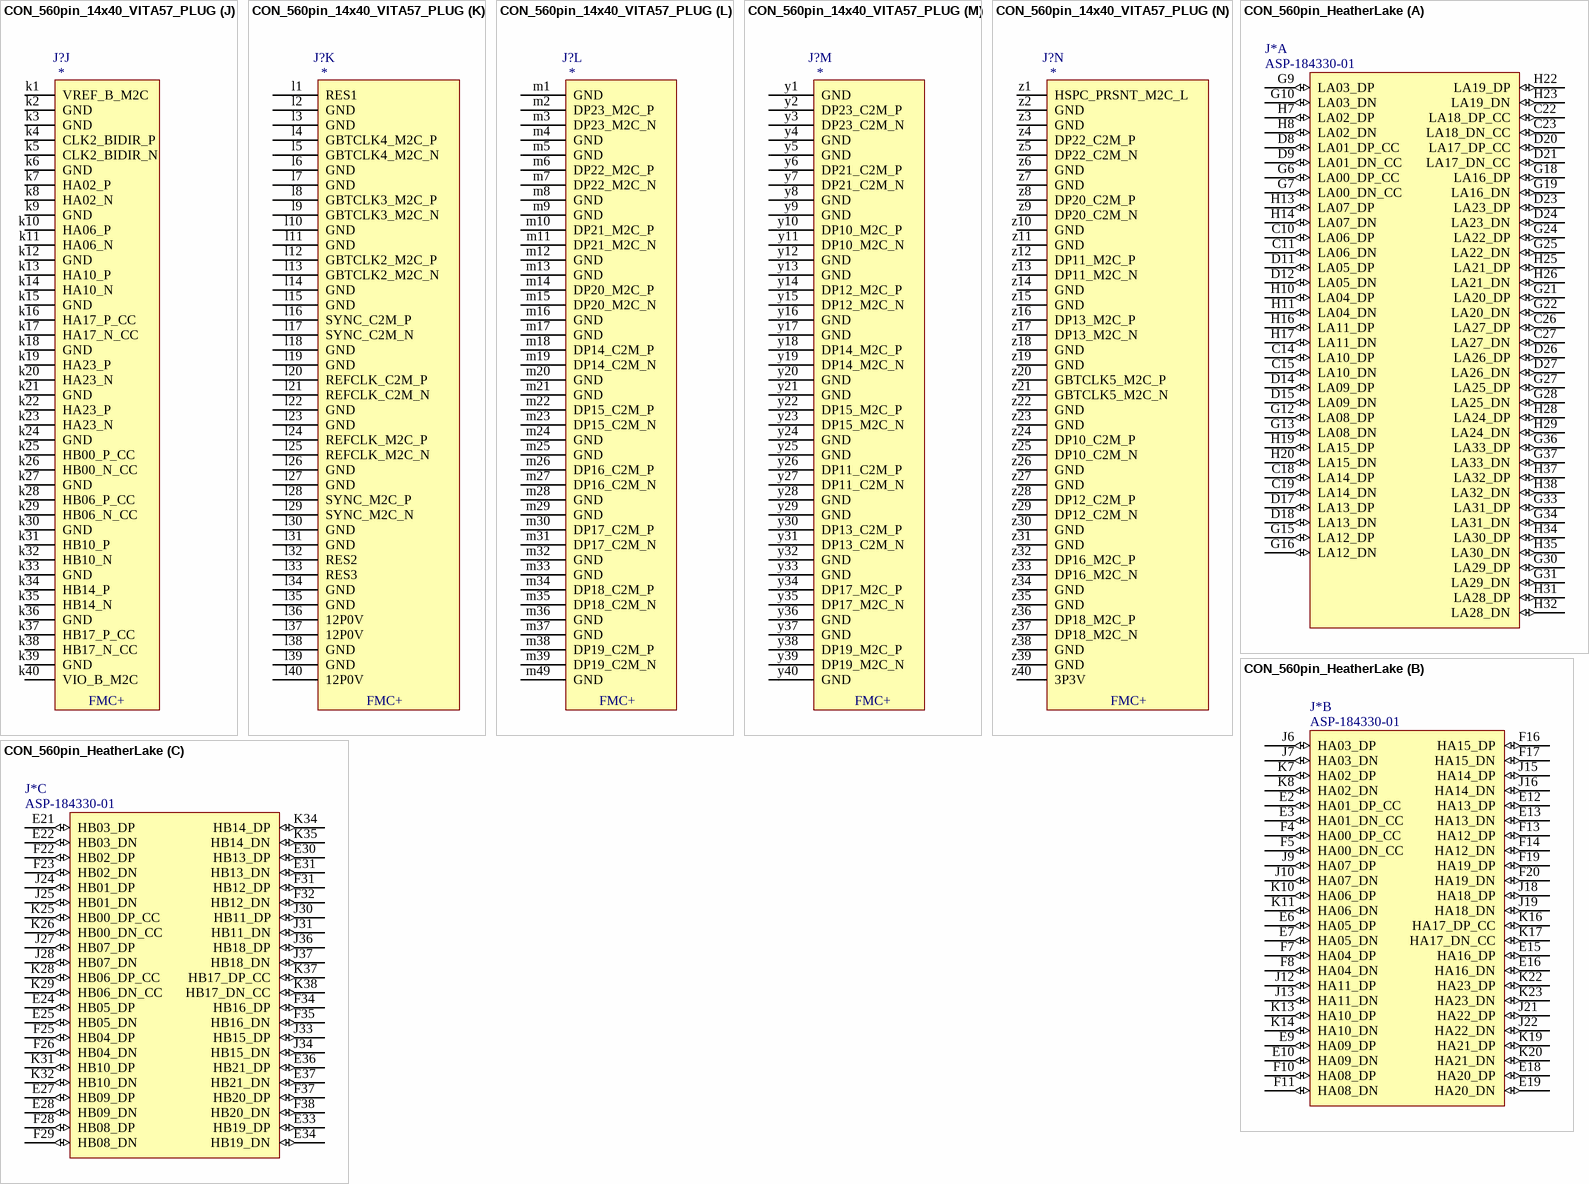
[diagram p5: symbols CON_560pin_14x40_VITA57_PLUG to CON_560pin_HeatherLake]

## CON_560pin_14x40_VITA57_PLUG
designator J?
Con VITA 57.4 (FMC+), 560 male contacts in 14 parts yzabcdefghjklm
part A pins: a1 GND, a2 DP1_M2C_P, a3 DP1_M2C_N, a4 GND, a5 GND, a6 DP2_M2C_P, a7 DP2_M2C_N, a8 GND, a9 GND, a10 DP3_M2C_P, a11 DP3_M2C_N, a12 GND, a13 GND, a14 DP4_M2C_P, a15 DP4_M2C_N, a16 GND, a17 GND, a18 DP5_M2C_P, a19 DP5_M2C_N, a20 GND, a21 GND, a22 DP1_C2M_P, a23 DP1_C2M_N, a24 GND, a25 GND, a26 DP2_C2M_P, a27 DP2_C2M_N, a28 GND, a29 GND, a30 DP3_C2M_P, a31 DP3_C2M_N, a32 GND, a33 GND, a34 DP4_C2M_P, a35 DP4_C2M_N, a36 GND, a37 GND, a38 DP5_C2M_P, a39 DP5_C2M_N, a40 GND
part B pins: b1 CLK_DIR, b2 GND, b3 GND, b4 DP9_M2C_P, b5 DP9_M2C_N, b6 GND, b7 GND, b8 DP8_M2C_P, b9 DP8_M2C_N, b10 GND, b11 GND, b12 DP7_M2C_P, b13 DP7_M2C_N, b14 GND, b15 GND, b16 DP6_M2C_P, b17 DP6_M2C_N, b18 GND, b19 GND, b20 GBTCLK1_M2C_P, b21 GBTCLK1_M2C_N, b22 GND, b23 GND, b24 DP9_C2M_P, b25 DP9_C2M_N, b26 GND, b27 GND, b28 DP8_C2M_P, b29 DP8_C2M_N, b30 GND, b31 GND, b32 DP7_C2M_P, b33 DP7_C2M_N, b34 GND, b35 GND, b36 DP6_C2M_P, b37 DP6_C2M_N, b38 GND, b39 GND, b40 RES0
part C pins: c1 GND, c2 DP0_C2M_P, c3 DP0_C2M_N, c4 GND, c5 GND, c6 DP0_M2C_P, c7 DP0_M2C_N, c8 GND, c9 GND, c10 LA06_P, c11 LA06_N, c12 GND, c13 GND, c14 LA10_P, c15 LA10_N, c16 GND, c17 GND, c18 LA14_P, c19 LA14_N, c20 GND, c21 GND, c22 LA18_P_CC, c23 LA18_N_CC, c24 GND, c25 GND, c26 LA27_P, c27 LA27_N, c28 GND, c29 GND, c30 SCL, c31 SDA, c32 GND, c33 GND, c34 GA0, c35 12P0V, c36 GND, c37 12P0V, c38 GND, c39 3P3V, c40 GND
part D pins: d1 PG_C2M, d2 GND, d3 GND, d4 GBTCLK0_M2C_P, d5 GBTCLK0_M2C_N, d6 GND, d7 GND, d8 LA01_P_CC, d9 LA01_N_CC, d10 GND, d11 LA05_P, d12 LA05_N, d13 GND, d14 LA09_P, d15 LA09_N, d16 GND, d17 LA13_P, d18 LA13_N, d19 GND, d20 LA17_P_CC, d21 LA17_N_CC, d22 GND, d23 LA23_P, d24 LA23_N, d25 GND, d26 LA26_P, d27 LA26_N, d28 GND, d29 TCK, d30 TDI, d31 TDO, d32 3P3VAUX, d33 TMS, d34 TRST_L, d35 GA1, d36 3P3V, d37 GND, d38 3P3V, d39 GND, d40 3P3V
part E pins: e1 GND, e2 HA01_P_CC, e3 HA01_N_CC, e4 GND, e5 GND, e6 HA05_P, e7 HA05_N, e8 GND, e9 HA09_P, e10 HA09_N, e11 GND, e12 HA13_P, e13 HA13_N, e14 GND, e15 HA16_P, e16 HA16_N, e17 GND, e18 HA20_P, e19 HA20_N, e20 GND, e21 HB03_P, e22 HB03_N, e23 GND, e24 HB05_P, e25 HB05_N, e26 GND, e27 HB09_P, e28 HB09_N, e29 GND, e30 HB13_P, e31 HB13_N, e32 GND, e33 HB19_P, e34 HB19_N, e35 GND, e36 HB21_P, e37 HB21_N, e38 GND, e39 VADJ, e40 GND
part F pins: f1 PG_M2C, f2 GND, f3 GND, f4 HA00_P_CC, f5 HA00_N_CC, f6 GND, f7 HA04_P, f8 HA04_N, f9 GND, f10 HA08_P, f11 HA08_N, f12 GND, f13 HA12_P, f14 HA12_N, f15 GND, f16 HA15_P, f17 HA15_N, f18 GND, f19 HA19_P, f20 HA19_N, f21 GND, f22 HB02_P, f23 HB02_N, f24 GND, f25 HB04_P, f26 HB04_N, f27 GND, f28 HB08_P, f29 HB08_N, f30 GND, f31 HB12_P, f32 HB12_N, f33 GND, f34 HB16_P, f35 HB16_N, f36 GND, f37 HB20_P, f38 HB20_N, f39 GND, f40 VADJ
part G pins: g1 GND, g2 CLK1_M2C_P, g3 CLK1_M2C_N, g4 GND, g5 GND, g6 LA00_P_CC, g7 LA00_N_CC, g8 GND, g9 LA03_P, g10 LA03_N, g11 GND, g12 LA08_P, g13 LA08_N, g14 GND, g15 LA12_P, g16 LA12_N, g17 GND, g18 LA16_P, g19 LA16_N, g20 GND, g21 LA20_P, g22 LA20_N, g23 GND, g24 LA22_P, g25 LA22_N, g26 GND, g27 LA25_P, g28 LA25_N, g29 GND, g30 LA29_P, g31 LA29_N, g32 GND, g33 LA31_P, g34 LA31_N, g35 GND, g36 LA33_P, g37 LA33_N, g38 GND, g39 VADJ, g40 GND
part H pins: h1 VREF_A_M2C, h2 PRSNT_M2C_L, h3 GND, h4 CLK0_M2C_P, h5 CLK0_M2C_N, h6 GND, h7 LA02_P, h8 LA02_N, h9 GND, h10 LA04_P, h11 LA04_N, h12 GND, h13 LA07_P, h14 LA07_N, h15 GND, h16 LA11_P, h17 LA11_N, h18 GND, h19 LA15_P, h20 LA15_N, h21 GND, h22 LA19_P, h23 LA19_N, h24 GND, h25 LA21_P, h26 LA21_N, h27 GND, h28 LA24_P, h29 LA24_N, h30 GND, h31 LA28_P, h32 LA28_N, h33 GND, h34 LA30_P, h35 LA30_N, h36 GND, h37 LA32_P, h38 LA32_N, h39 GND, h40 VADJ
part I pins: j1 GND, j2 CLK3_BIDIR_P, j3 CLK3_BIDIR_P, j4 GND, j5 GND, j6 HA03_P, j7 HA03_N, j8 GND, j9 HA07_P, j10 HA07_N, j11 GND, j12 HA11_P, j13 HA11_N, j14 GND, j15 HA14_P, j16 HA14_N, j17 GND, j18 HA18_P, j19 HA18_N, j20 GND, j21 HA22_P, j22 HA22_N, j23 GND, j24 HB01_P, j25 HB01_N, j26 GND, j27 HB07_P, j28 HB07_N, j29 GND, j30 HB11_P, j31 HB11_N, j32 GND, j33 HB15_P, j34 HB15_N, j35 GND, j36 HB18_P, j37 HB18_N, j38 GND, j39 VIO_B_M2C, j40 GND
part J pins: k1 VREF_B_M2C, k2 GND, k3 GND, k4 CLK2_BIDIR_P, k5 CLK2_BIDIR_N, k6 GND, k7 HA02_P, k8 HA02_N, k9 GND, k10 HA06_P, k11 HA06_N, k12 GND, k13 HA10_P, k14 HA10_N, k15 GND, k16 HA17_P_CC, k17 HA17_N_CC, k18 GND, k19 HA23_P, k20 HA23_N, k21 GND, k22 HA23_P, k23 HA23_N, k24 GND, k25 HB00_P_CC, k26 HB00_N_CC, k27 GND, k28 HB06_P_CC, k29 HB06_N_CC, k30 GND, k31 HB10_P, k32 HB10_N, k33 GND, k34 HB14_P, k35 HB14_N, k36 GND, k37 HB17_P_CC, k38 HB17_N_CC, k39 GND, k40 VIO_B_M2C
part K pins: l1 RES1, l2 GND, l3 GND, l4 GBTCLK4_M2C_P, l5 GBTCLK4_M2C_N, l6 GND, l7 GND, l8 GBTCLK3_M2C_P, l9 GBTCLK3_M2C_N, l10 GND, l11 GND, l12 GBTCLK2_M2C_P, l13 GBTCLK2_M2C_N, l14 GND, l15 GND, l16 SYNC_C2M_P, l17 SYNC_C2M_N, l18 GND, l19 GND, l20 REFCLK_C2M_P, l21 REFCLK_C2M_N, l22 GND, l23 GND, l24 REFCLK_M2C_P, l25 REFCLK_M2C_N, l26 GND, l27 GND, l28 SYNC_M2C_P, l29 SYNC_M2C_N, l30 GND, l31 GND, l32 RES2, l33 RES3, l34 GND, l35 GND, l36 12P0V, l37 12P0V, l38 GND, l39 GND, l40 12P0V
part L pins: m1 GND, m2 DP23_M2C_P, m3 DP23_M2C_N, m4 GND, m5 GND, m6 DP22_M2C_P, m7 DP22_M2C_N, m8 GND, m9 GND, m10 DP21_M2C_P, m11 DP21_M2C_N, m12 GND, m13 GND, m14 DP20_M2C_P, m15 DP20_M2C_N, m16 GND, m17 GND, m18 DP14_C2M_P, m19 DP14_C2M_N, m20 GND, m21 GND, m22 DP15_C2M_P, m23 DP15_C2M_N, m24 GND, m25 GND, m26 DP16_C2M_P, m27 DP16_C2M_N, m28 GND, m29 GND, m30 DP17_C2M_P, m31 DP17_C2M_N, m32 GND, m33 GND, m34 DP18_C2M_P, m35 DP18_C2M_N, m36 GND, m37 GND, m38 DP19_C2M_P, m39 DP19_C2M_N, m49 GND
part M pins: y1 GND, y2 DP23_C2M_P, y3 DP23_C2M_N, y4 GND, y5 GND, y6 DP21_C2M_P, y7 DP21_C2M_N, y8 GND, y9 GND, y10 DP10_M2C_P, y11 DP10_M2C_N, y12 GND, y13 GND, y14 DP12_M2C_P, y15 DP12_M2C_N, y16 GND, y17 GND, y18 DP14_M2C_P, y19 DP14_M2C_N, y20 GND, y21 GND, y22 DP15_M2C_P, y23 DP15_M2C_N, y24 GND, y25 GND, y26 DP11_C2M_P, y27 DP11_C2M_N, y28 GND, y29 GND, y30 DP13_C2M_P, y31 DP13_C2M_N, y32 GND, y33 GND, y34 DP17_M2C_P, y35 DP17_M2C_N, y36 GND, y37 GND, y38 DP19_M2C_P, y39 DP19_M2C_N, y40 GND
part N pins: z1 HSPC_PRSNT_M2C_L, z2 GND, z3 GND, z4 DP22_C2M_P, z5 DP22_C2M_N, z6 GND, z7 GND, z8 DP20_C2M_P, z9 DP20_C2M_N, z10 GND, z11 GND, z12 DP11_M2C_P, z13 DP11_M2C_N, z14 GND, z15 GND, z16 DP13_M2C_P, z17 DP13_M2C_N, z18 GND, z19 GND, z20 GBTCLK5_M2C_P, z21 GBTCLK5_M2C_N, z22 GND, z23 GND, z24 DP10_C2M_P, z25 DP10_C2M_N, z26 GND, z27 GND, z28 DP12_C2M_P, z29 DP12_C2M_N, z30 GND, z31 GND, z32 DP16_M2C_P, z33 DP16_M2C_N, z34 GND, z35 GND, z36 DP18_M2C_P, z37 DP18_M2C_N, z38 GND, z39 GND, z40 3P3V
part A text: FMC+
part B text: FMC+
part C text: FMC+
part D text: FMC+
part E text: FMC+
part F text: FMC+
part G text: FMC+
part H text: FMC+
part I text: FMC+
part J text: FMC+
part K text: FMC+
part L text: FMC+
part M text: FMC+
part N text: FMC+

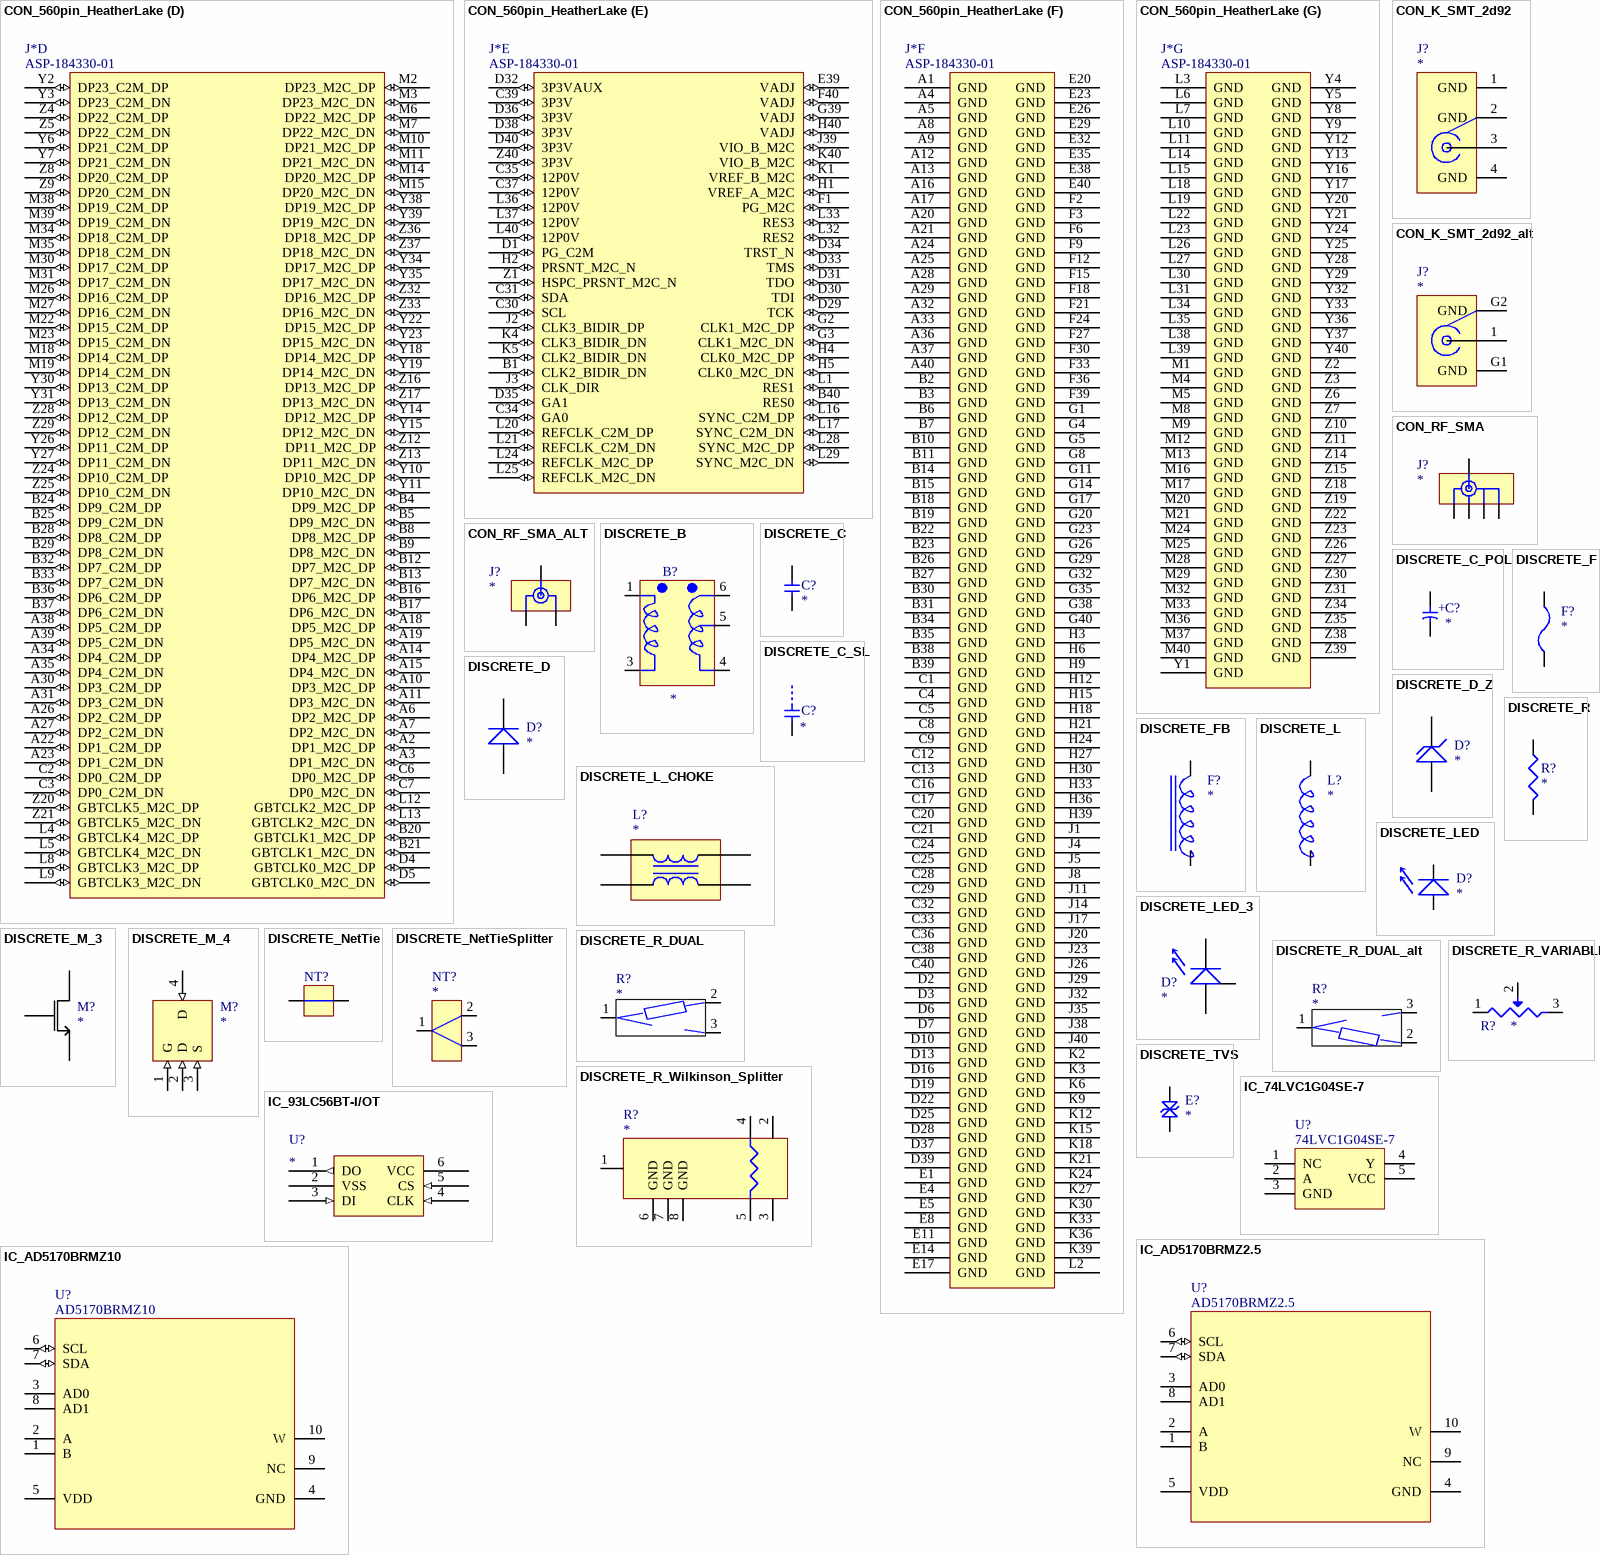
[diagram p6: symbols CON_560pin_HeatherLake to IC_AD5170BRMZ10]

## CON_560pin_HeatherLake
designator J*, comment ASP-184330-01
Con (FMC+) 560-pin male contacts; Supplier 1: Arrow Electronics; Supplier Part Number 1: ASP-184330-01
part A pins: C10 LA06_DP (io), C11 LA06_DN (io), C14 LA10_DP (io), C15 LA10_DN (io), C18 LA14_DP (io), C19 LA14_DN (io), C22 LA18_DP_CC (io), C23 LA18_DN_CC (io), C26 LA27_DP (io), C27 LA27_DN (io), D8 LA01_DP_CC (io), D9 LA01_DN_CC (io), D11 LA05_DP (io), D12 LA05_DN (io), D14 LA09_DP (io), D15 LA09_DN (io), D17 LA13_DP (io), D18 LA13_DN (io), D20 LA17_DP_CC (io), D21 LA17_DN_CC (io), D23 LA23_DP (io), D24 LA23_DN (io), D26 LA26_DP (io), D27 LA26_DN (io), G6 LA00_DP_CC (io), G7 LA00_DN_CC (io), G9 LA03_DP (io), G10 LA03_DN (io), G12 LA08_DP (io), G13 LA08_DN (io), G15 LA12_DP (io), G16 LA12_DN (io), G18 LA16_DP (io), G19 LA16_DN (io), G21 LA20_DP (io), G22 LA20_DN (io), G24 LA22_DP (io), G25 LA22_DN (io), G27 LA25_DP (io), G28 LA25_DN (io), G30 LA29_DP (io), G31 LA29_DN (io), G33 LA31_DP (io), G34 LA31_DN (io), G36 LA33_DP (io), G37 LA33_DN (io), H7 LA02_DP (io), H8 LA02_DN (io), H10 LA04_DP (io), H11 LA04_DN (io), H13 LA07_DP (io), H14 LA07_DN (io), H16 LA11_DP (io), H17 LA11_DN (io), H19 LA15_DP (io), H20 LA15_DN (io), H22 LA19_DP (io), H23 LA19_DN (io), H25 LA21_DP (io), H26 LA21_DN (io), H28 LA24_DP (io), H29 LA24_DN (io), H31 LA28_DP (io), H32 LA28_DN (io), H34 LA30_DP (io), H35 LA30_DN (io), H37 LA32_DP (io), H38 LA32_DN (io)
part B pins: E2 HA01_DP_CC (io), E3 HA01_DN_CC (io), E6 HA05_DP (io), E7 HA05_DN (io), E9 HA09_DP (io), E10 HA09_DN (io), E12 HA13_DP (io), E13 HA13_DN (io), E15 HA16_DP (io), E16 HA16_DN (io), E18 HA20_DP (io), E19 HA20_DN (io), F4 HA00_DP_CC (io), F5 HA00_DN_CC (io), F7 HA04_DP (io), F8 HA04_DN (io), F10 HA08_DP (io), F11 HA08_DN (io), F13 HA12_DP (io), F14 HA12_DN (io), F16 HA15_DP (io), F17 HA15_DN (io), F19 HA19_DP (io), F20 HA19_DN (io), J6 HA03_DP (io), J7 HA03_DN (io), J9 HA07_DP (io), J10 HA07_DN (io), J12 HA11_DP (io), J13 HA11_DN (io), J15 HA14_DP (io), J16 HA14_DN (io), J18 HA18_DP (io), J19 HA18_DN (io), J21 HA22_DP (io), J22 HA22_DN (io), K7 HA02_DP (io), K8 HA02_DN (io), K10 HA06_DP (io), K11 HA06_DN (io), K13 HA10_DP (io), K14 HA10_DN (io), K16 HA17_DP_CC (io), K17 HA17_DN_CC (io), K19 HA21_DP (io), K20 HA21_DN (io), K22 HA23_DP (io), K23 HA23_DN (io)
part C pins: E21 HB03_DP (io), E22 HB03_DN (io), E24 HB05_DP (io), E25 HB05_DN (io), E27 HB09_DP (io), E28 HB09_DN (io), E30 HB13_DP (io), E31 HB13_DN (io), E33 HB19_DP (io), E34 HB19_DN (io), E36 HB21_DP (io), E37 HB21_DN (io), F22 HB02_DP (io), F23 HB02_DN (io), F25 HB04_DP (io), F26 HB04_DN (io), F28 HB08_DP (io), F29 HB08_DN (io), F31 HB12_DP (io), F32 HB12_DN (io), F34 HB16_DP (io), F35 HB16_DN (io), F37 HB20_DP (io), F38 HB20_DN (io), J24 HB01_DP (io), J25 HB01_DN (io), J27 HB07_DP (io), J28 HB07_DN (io), J30 HB11_DP (io), J31 HB11_DN (io), J33 HB15_DP (io), J34 HB15_DN (io), J36 HB18_DP (io), J37 HB18_DN (io), K25 HB00_DP_CC (io), K26 HB00_DN_CC (io), K28 HB06_DP_CC (io), K29 HB06_DN_CC (io), K31 HB10_DP (io), K32 HB10_DN (io), K34 HB14_DP (io), K35 HB14_DN (io), K37 HB17_DP_CC (io), K38 HB17_DN_CC (io)
part D pins: A2 DP1_M2C_DP (io), A3 DP1_M2C_DN (io), A6 DP2_M2C_DP (io), A7 DP2_M2C_DN (io), A10 DP3_M2C_DP (io), A11 DP3_M2C_DN (io), A14 DP4_M2C_DP (io), A15 DP4_M2C_DN (io), A18 DP5_M2C_DP (io), A19 DP5_M2C_DN (io), A22 DP1_C2M_DP (io), A23 DP1_C2M_DN (io), A26 DP2_C2M_DP (io), A27 DP2_C2M_DN (io), A30 DP3_C2M_DP (io), A31 DP3_C2M_DN (io), A34 DP4_C2M_DP (io), A35 DP4_C2M_DN (io), A38 DP5_C2M_DP (io), A39 DP5_C2M_DN (io), B4 DP9_M2C_DP (io), B5 DP9_M2C_DN (io), B8 DP8_M2C_DP (io), B9 DP8_M2C_DN (io), B12 DP7_M2C_DP (io), B13 DP7_M2C_DN (io), B16 DP6_M2C_DP (io), B17 DP6_M2C_DN (io), B20 GBTCLK1_M2C_DP (io), B21 GBTCLK1_M2C_DN (io), B24 DP9_C2M_DP (io), B25 DP9_C2M_DN (io), B28 DP8_C2M_DP (io), B29 DP8_C2M_DN (io), B32 DP7_C2M_DP (io), B33 DP7_C2M_DN (io), B36 DP6_C2M_DP (io), B37 DP6_C2M_DN (io), C2 DP0_C2M_DP (io), C3 DP0_C2M_DN (io), C6 DP0_M2C_DP (io), C7 DP0_M2C_DN (io), D4 GBTCLK0_M2C_DP (io), D5 GBTCLK0_M2C_DN (io), L4 GBTCLK4_M2C_DP (io), L5 GBTCLK4_M2C_DN (io), L8 GBTCLK3_M2C_DP (io), L9 GBTCLK3_M2C_DN (io), L12 GBTCLK2_M2C_DP (io), L13 GBTCLK2_M2C_DN (io), M2 DP23_M2C_DP (io), M3 DP23_M2C_DN (io), M6 DP22_M2C_DP (io), M7 DP22_M2C_DN (io), M10 DP21_M2C_DP (io), M11 DP21_M2C_DN (io), M14 DP20_M2C_DP (io), M15 DP20_M2C_DN (io), M18 DP14_C2M_DP (io), M19 DP14_C2M_DN (io), M22 DP15_C2M_DP (io), M23 DP15_C2M_DN (io), M26 DP16_C2M_DP (io), M27 DP16_C2M_DN (io), M30 DP17_C2M_DP (io), M31 DP17_C2M_DN (io), M34 DP18_C2M_DP (io), M35 DP18_C2M_DN (io), M38 DP19_C2M_DP (io), M39 DP19_C2M_DN (io), Y2 DP23_C2M_DP (io), Y3 DP23_C2M_DN (io), Y6 DP21_C2M_DP (io), Y7 DP21_C2M_DN (io), Y10 DP10_M2C_DP (io), Y11 DP10_M2C_DN (io), Y14 DP12_M2C_DP (io), Y15 DP12_M2C_DN (io), Y18 DP14_M2C_DP (io), Y19 DP14_M2C_DN (io), Y22 DP15_M2C_DP (io), Y23 DP15_M2C_DN (io), Y26 DP11_C2M_DP (io), Y27 DP11_C2M_DN (io), Y30 DP13_C2M_DP (io), Y31 DP13_C2M_DN (io), Y34 DP17_M2C_DP (io), Y35 DP17_M2C_DN (io), Y38 DP19_M2C_DP (io), Y39 DP19_M2C_DN (io), Z4 DP22_C2M_DP (io), Z5 DP22_C2M_DN (io), Z8 DP20_C2M_DP (io), Z9 DP20_C2M_DN (io), Z12 DP11_M2C_DP (io), Z13 DP11_M2C_DN (io), Z16 DP13_M2C_DP (io), Z17 DP13_M2C_DN (io), Z20 GBTCLK5_M2C_DP (io), Z21 GBTCLK5_M2C_DN (io), Z24 DP10_C2M_DP (io), Z25 DP10_C2M_DN (io), Z28 DP12_C2M_DP (io), Z29 DP12_C2M_DN (io), Z32 DP16_M2C_DP (io), Z33 DP16_M2C_DN (io), Z36 DP18_M2C_DP (io), Z37 DP18_M2C_DN (io)
part E pins: B1 CLK2_BIDIR_DN (io), B40 RES0 (io), C30 SCL (io), C31 SDA (io), C34 GA0 (io), C35 12P0V (io), C37 12P0V (io), C39 3P3V (io), D1 PG_C2M (io), D29 TCK (io), D30 TDI (io), D31 TDO (io), D32 3P3VAUX (io), D33 TMS (io), D34 TRST_N (io), D35 GA1 (io), D36 3P3V (io), D38 3P3V (io), D40 3P3V (io), E39 VADJ (io), F1 PG_M2C (io), F40 VADJ (io), G2 CLK1_M2C_DP (io), G3 CLK1_M2C_DN (io), G39 VADJ (io), H1 VREF_A_M2C (io), H2 PRSNT_M2C_N (io), H4 CLK0_M2C_DP (io), H5 CLK0_M2C_DN (io), H40 VADJ (io), J2 CLK3_BIDIR_DP (io), J3 CLK_DIR (io), J39 VIO_B_M2C (io), K1 VREF_B_M2C (io), K4 CLK3_BIDIR_DN (io), K5 CLK2_BIDIR_DN (io), K40 VIO_B_M2C (io), L1 RES1 (io), L16 SYNC_C2M_DP (io), L17 SYNC_C2M_DN (io), L20 REFCLK_C2M_DP (io), L21 REFCLK_C2M_DN (io), L24 REFCLK_M2C_DP (io), L25 REFCLK_M2C_DN (io), L28 SYNC_M2C_DP (io), L29 SYNC_M2C_DN (io), L32 RES2 (io), L33 RES3 (io), L36 12P0V (io), L37 12P0V (io), L40 12P0V (io), Z1 HSPC_PRSNT_M2C_N (io), Z40 3P3V (io)
part F pins: A1 GND (power), A4 GND (power), A5 GND (power), A8 GND (power), A9 GND (power), A12 GND (power), A13 GND (power), A16 GND (power), A17 GND (power), A20 GND (power), A21 GND (power), A24 GND (power), A25 GND (power), A28 GND (power), A29 GND (power), A32 GND (power), A33 GND (power), A36 GND (power), A37 GND (power), A40 GND (power), B2 GND (power), B3 GND (power), B6 GND (power), B7 GND (power), B10 GND (power), B11 GND (power), B14 GND (power), B15 GND (power), B18 GND (power), B19 GND (power), B22 GND (power), B23 GND (power), B26 GND (power), B27 GND (power), B30 GND (power), B31 GND (power), B34 GND (power), B35 GND (power), B38 GND (power), B39 GND (power), C1 GND (power), C4 GND (power), C5 GND (power), C8 GND (power), C9 GND (power), C12 GND (power), C13 GND (power), C16 GND (power), C17 GND (power), C20 GND (power), C21 GND (power), C24 GND (power), C25 GND (power), C28 GND (power), C29 GND (power), C32 GND (power), C33 GND (power), C36 GND (power), C38 GND (power), C40 GND (power), D2 GND (power), D3 GND (power), D6 GND (power), D7 GND (power), D10 GND (power), D13 GND (power), D16 GND (power), D19 GND (power), D22 GND (power), D25 GND (power), D28 GND (power), D37 GND (power), D39 GND (power), E1 GND (power), E4 GND (power), E5 GND (power), E8 GND (power), E11 GND (power), E14 GND (power), E17 GND (power), E20 GND (power), E23 GND (power), E26 GND (power), E29 GND (power), E32 GND (power), E35 GND (power), E38 GND (power), E40 GND (power), F2 GND (power), F3 GND (power), F6 GND (power), F9 GND (power), F12 GND (power), F15 GND (power), F18 GND (power), F21 GND (power), F24 GND (power), F27 GND (power), F30 GND (power), F33 GND (power), F36 GND (power), F39 GND (power), G1 GND (power), G4 GND (power), G5 GND (power), G8 GND (power), G11 GND (power), G14 GND (power), G17 GND (power), G20 GND (power), G23 GND (power), G26 GND (power), G29 GND (power), G32 GND (power), G35 GND (power), G38 GND (power), G40 GND (power), H3 GND (power), H6 GND (power), H9 GND (power), H12 GND (power), H15 GND (power), H18 GND (power), H21 GND (power), H24 GND (power), H27 GND (power), H30 GND (power), H33 GND (power), H36 GND (power), H39 GND (power), J1 GND (power), J4 GND (power), J5 GND (power), J8 GND (power), J11 GND (power), J14 GND (power), J17 GND (power), J20 GND (power), J23 GND (power), J26 GND (power), J29 GND (power), J32 GND (power), J35 GND (power), J38 GND (power), J40 GND (power), K2 GND (power), K3 GND (power), K6 GND (power), K9 GND (power), K12 GND (power), K15 GND (power), K18 GND (power), K21 GND (power), K24 GND (power), K27 GND (power), K30 GND (power), K33 GND (power), K36 GND (power), K39 GND (power), L2 GND (power)
part G pins: L3 GND (power), L6 GND (power), L7 GND (power), L10 GND (power), L11 GND (power), L14 GND (power), L15 GND (power), L18 GND (power), L19 GND (power), L22 GND (power), L23 GND (power), L26 GND (power), L27 GND (power), L30 GND (power), L31 GND (power), L34 GND (power), L35 GND (power), L38 GND (power), L39 GND (power), M1 GND (power), M4 GND (power), M5 GND (power), M8 GND (power), M9 GND (power), M12 GND (power), M13 GND (power), M16 GND (power), M17 GND (power), M20 GND (power), M21 GND (power), M24 GND (power), M25 GND (power), M28 GND (power), M29 GND (power), M32 GND (power), M33 GND (power), M36 GND (power), M37 GND (power), M40 GND (power), Y1 GND (power), Y4 GND (power), Y5 GND (power), Y8 GND (power), Y9 GND (power), Y12 GND (power), Y13 GND (power), Y16 GND (power), Y17 GND (power), Y20 GND (power), Y21 GND (power), Y24 GND (power), Y25 GND (power), Y28 GND (power), Y29 GND (power), Y32 GND (power), Y33 GND (power), Y36 GND (power), Y37 GND (power), Y40 GND (power), Z2 GND (power), Z3 GND (power), Z6 GND (power), Z7 GND (power), Z10 GND (power), Z11 GND (power), Z14 GND (power), Z15 GND (power), Z18 GND (power), Z19 GND (power), Z22 GND (power), Z23 GND (power), Z26 GND (power), Z27 GND (power), Z30 GND (power), Z31 GND (power), Z34 GND (power), Z35 GND (power), Z38 GND (power), Z39 GND (power)

## CON_K_SMT_2d92
designator J?
Con RF K
pins: 1 GND, 2 GND, 3 1, 4 GND

## CON_K_SMT_2d92_alt
designator J?
Con RF K
pins: 1, G1 GND, G2 GND

## CON_RF_SMA
designator J?
Con RF SMA
pins: 1, 2, 3, 4, 5

## CON_RF_SMA_ALT
designator J?
Con RF SMA
pins: 1, 2, 3

## DISCRETE_B
designator B?
Balun generic
pins: 1, 3, 4, 5, 6

## DISCRETE_C
designator C?
Capacitor generic
pins: 1, 2

## DISCRETE_C_POL
designator C?
Capacitor polarized
pins: 1, 2
text: +

## DISCRETE_C_SL
designator C?
Single layer capacitor 1 pad
pins: 1

## DISCRETE_D
designator D?
Diode generic
pins: 1, 2

## DISCRETE_D_Z
designator D?
Diode zener generic
pins: 1, 2

## DISCRETE_F
designator F?
Fuse generic
pins: 1, 2

## DISCRETE_FB
designator F?
Ferrite bead generic
pins: 1, 2

## DISCRETE_L
designator L?
Inductor generic
pins: 1, 2

## DISCRETE_L_CHOKE
designator L?
Common mode choke inductive generic
pins: 1, 2, 3, 4

## DISCRETE_LED
designator D?
LED generic
pins: 1, 2

## DISCRETE_LED_3
designator D?
LED right angle SMT, 3 pin
pins: 1, 2, 3

## DISCRETE_M_3
designator M?
Transistor NMOS 3 pin
pins: 1 G, 2 S, 3 D

## DISCRETE_M_4
designator M?
Transistor NMOS 4 pin
pins: 1 G (in), 2 D (in), 3 S (in), 4 D (in)

## DISCRETE_NetTie
designator NT?  (value not drawn)  (net tie, no BOM)
Net tie
pins: 1, 2

## DISCRETE_NetTieSplitter
designator NT?  (net tie, no BOM)
Transmission line power divider
pins: 1, 2, 3

## DISCRETE_R
designator R?
Resistor generic
pins: 1, 2

## DISCRETE_R_DUAL
designator R?  (no BOM)
Resistors dual no stub
pins: 1, 2, 3

## DISCRETE_R_DUAL_alt
designator R?  (no BOM)
Resistors dual no stub
pins: 1, 2, 3

## DISCRETE_R_VARIABLE
designator R?
Potentiometer
pins: 1, 2, 3

## DISCRETE_R_Wilkinson_Splitter
designator R?
Transmission line power divider
pins: 1, 2, 3, 4, 5, 6 GND, 7 GND, 8 GND

## DISCRETE_TVS
designator E?
TVS ESD protection clamp generic
pins: 1, 2

## IC_74LVC1G04SE-7
designator U?, comment 74LVC1G04SE-7
IC INVERTER 1CH 1-INP SOT353
pins: 1 NC, 2 A, 3 GND, 4 Y, 5 VCC

## IC_93LC56BT-I/OT
designator U?
EEPROM Non-Volatile Memory 2kbit 128x16 2MHz 2.5V-5.5V SOT-23-6
pins: 1 DO (out), 2 VSS (power), 3 DI (in), 4 CLK (in), 5 CS (in), 6 VCC (power)

## IC_AD5170BRMZ2.5
designator U?, comment AD5170BRMZ2.5
AD5170 Quad 256-Position I2C Nonvolatile Memory, Digital Potentiometer 2.5K
footprint RM_10
pins: 1 B, 2 A, 3 AD0, 4 GND, 5 VDD, 6 SCL (io), 7 SDA (io), 8 AD1, 9 NC, 10 W

## IC_AD5170BRMZ10
designator U?, comment AD5170BRMZ10
AD5170 Quad 256-Position I2C Nonvolatile Memory, Digital Potentiometer 10K
footprint RM_10
pins: 1 B, 2 A, 3 AD0, 4 GND, 5 VDD, 6 SCL (io), 7 SDA (io), 8 AD1, 9 NC, 10 W

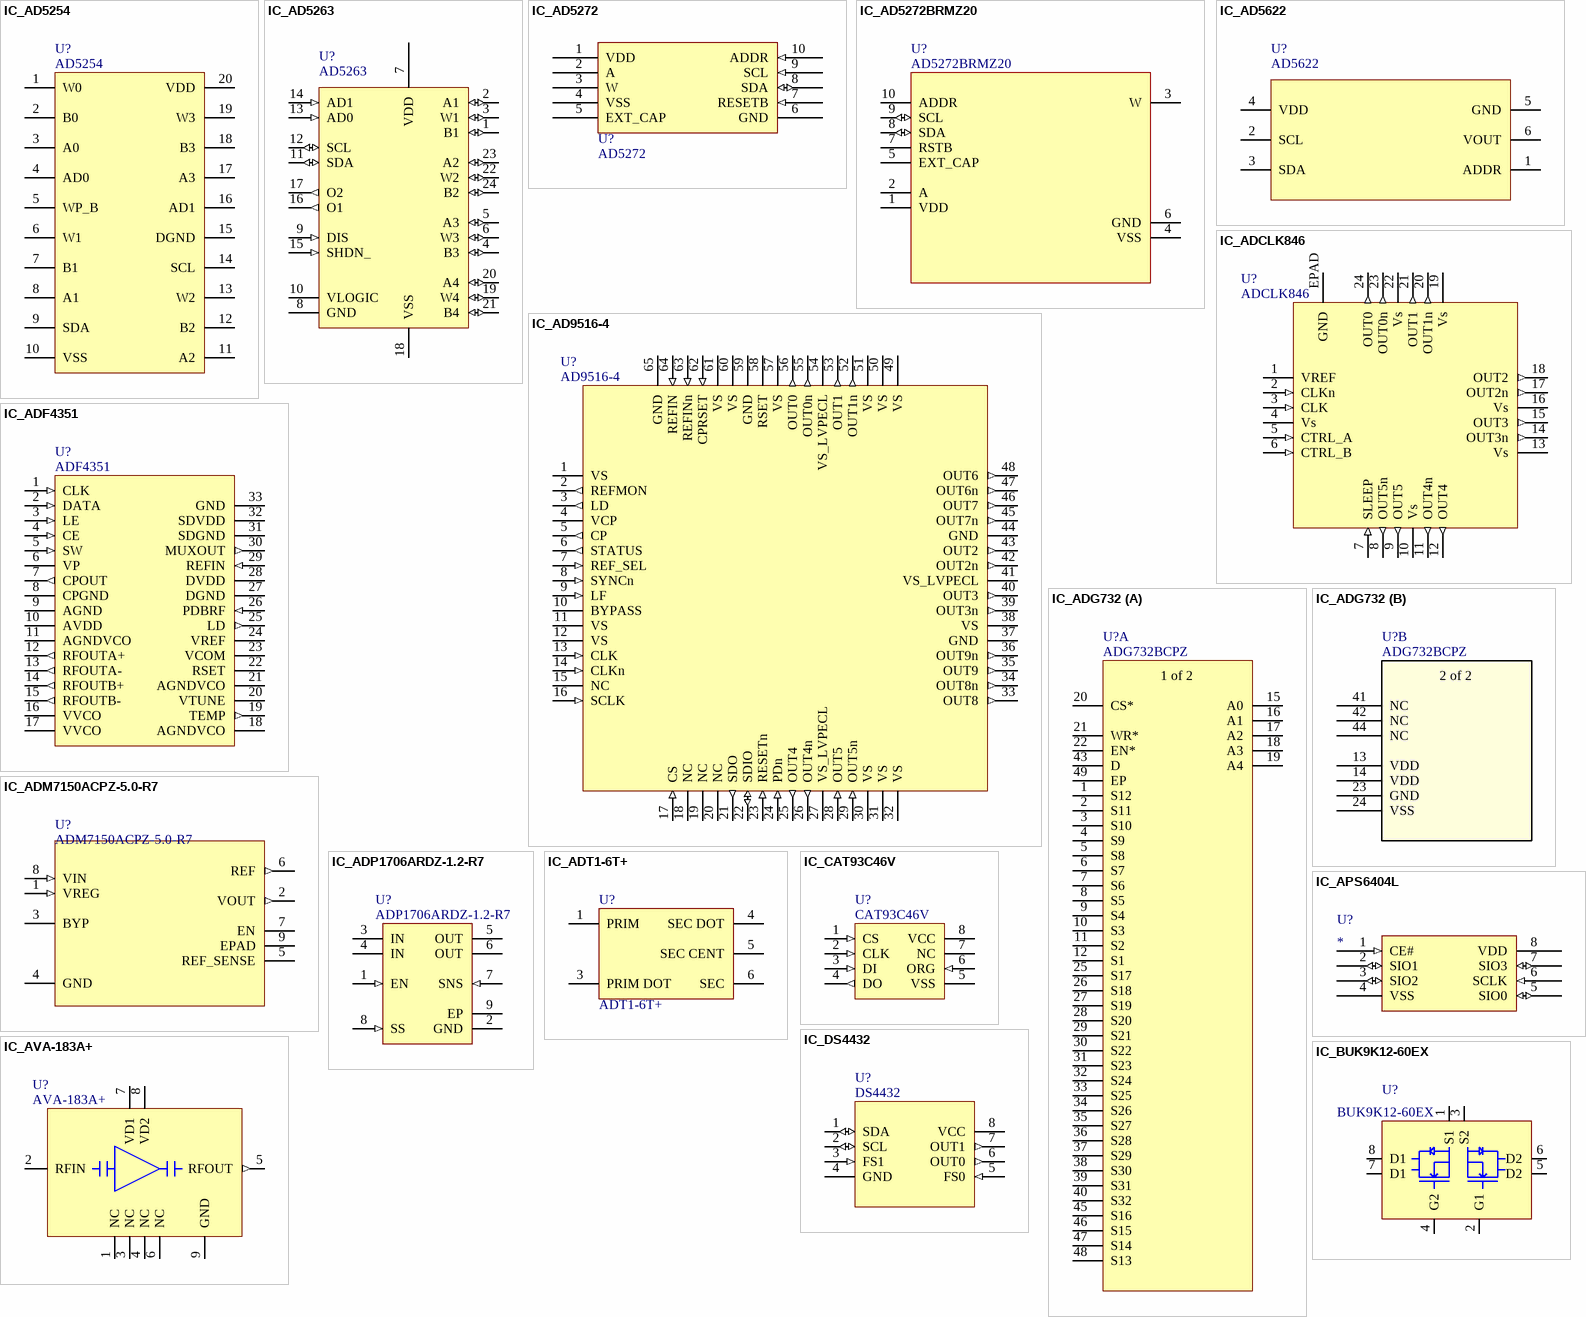
[diagram p7: symbols IC_AD5254 to IC_DS4432]

## IC_AD5254
designator U?, comment AD5254
AD5254 Quad 256-Position I2C Nonvolatile Memory Digital Potentiometer
pins: 1 W0, 2 B0, 3 A0, 4 AD0, 5 WP_B, 6 W1, 7 B1, 8 A1, 9 SDA, 10 VSS, 11 A2, 12 B2, 13 W2, 14 SCL, 15 DGND, 16 AD1, 17 A3, 18 B3, 19 W3, 20 VDD

## IC_AD5263
designator U?, comment AD5263
AD5263 potentiometer digital 4-output
pins: 1 B1 (io), 2 A1 (io), 3 W1 (io), 4 B3 (io), 5 A3 (io), 6 W3 (io), 7 VDD (power), 8 GND (power), 9 DIS (in), 10 VLOGIC (power), 11 SDA (io), 12 SCL (io), 13 AD0 (in), 14 AD1 (in), 15 SHDN_ (in), 16 O1 (out), 17 O2 (out), 18 VSS (power), 19 W4 (io), 20 A4 (io), 21 B4 (io), 22 W2 (io), 23 A2 (io), 24 B2 (io)

## IC_AD5272
designator U?, comment AD5272
Digital potentiometer 256 tap I2C 50-TP nonvolatile
pins: 1 VDD (power), 2 A, 3 W, 4 VSS (power), 5 EXT_CAP, 6 GND (power), 7 RESETB (in), 8 SDA (io), 9 SCL (in), 10 ADDR (in)

## IC_AD5272BRMZ20
designator U?, comment AD5272BRMZ20
AD5170 Quad 256-Position I2C Nonvolatile Memory, Digital Potentiometer 10K
footprint RM_10
pins: 1 VDD, 2 A, 3 W, 4 VSS, 5 EXT_CAP (power), 6 GND, 7 RSTB, 8 SDA (io), 9 SCL (io), 10 ADDR

## IC_AD5622
designator U?, comment AD5622
2.7 V to 5.5 V, <100 µA, 8-/10-/12-Bit nanoDACs with I2C Compatible Interface
pins: 1 ADDR, 2 SCL, 3 SDA, 4 VDD, 5 GND, 6 VOUT

## IC_AD9516-4
designator U?, comment AD9516-4
AD9516-4 14-Output clock generator with integrated 1.6 GHz VCO
pins: 1 VS (power) "3.3V Supply", 2 REFMON (out) "Reference monitor", 3 LD (out) "Lock detect", 4 VCP (power) "Charge pump supply", 5 CP (out) "Charge pump output", 6 STATUS (out) "Status output", 7 REF_SEL (in) "Reference select (pulled low) REF1=low REF2=high", 8 SYNCn (in) "Active-low sync (pulled high)", 9 LF (in) "Loop filter input", 10 BYPASS "Loop filter LDO bypass (add cap)", 11 VS (power) "3.3V Supply", 12 VS (power) "3.3V Supply", 13 CLK (in) "Clock (+) input", 14 CLKn (in) "Clock (-) input", 15 NC (hiz) "Do not connect", 16 SCLK (in) "SPI clock (3.3V CMOS)", 17 CS (in) "SPI active-low chip select (3.3V CMOS)", 18 NC (hiz) "Do not connect", 19 NC (hiz) "Do not connect", 20 NC (hiz) "Do not connect", 21 SDO (out) "SPI serial data out", 22 SDIO (io) "SPI serial data in/out", 23 RESETn (in) "Active-low reset", 24 PDn (in) "Active-low power-down", 25 OUT4 (out) "Output 4 (+) LVPECL", 26 OUT4n (out) "Output 4 (-) LVPECL", 27 VS_LVPECL (power) "LVPECL (2.5V-3.3V) Supply", 28 OUT5 (in) "Output 5 (+) LVPECL", 29 OUT5n (in) "Output 5 (-) LVPECL", 30 VS (power) "3.3V Supply", 31 VS (power) "3.3V Supply", 32 VS (power) "3.3V Supply", 33 OUT8 (out) "Output 8 (+) LVDS or CMOS", 34 OUT8n (out) "Output 8 (-) LVDS or CMOS", 35 OUT9 (out) "Output 9 (+) LVDS or CMOS", 36 OUT9n (out) "Output 9 (-) LVDS or CMOS", 37 GND (power) "Ground", 38 VS (power) "3.3V Supply", 39 OUT3n (out) "Output 3 (-) LVPECL", 40 OUT3 (out) "Output 3 (+) LVPECL", 41 VS_LVPECL (power) "LVPECL (2.5V-3.3V) Supply", 42 OUT2n (out) "Output 2 (-) LVPECL", 43 OUT2 (out) "Output 2 (+) LVPECL", 44 GND (power) "Ground", 45 OUT7n (out) "Output 7 (-) LVDS or CMOS", 46 OUT7 (out) "Output 7 (+) LVDS or CMOS", 47 OUT6n (out) "Output 6 (-) LVDS or CMOS", 48 OUT6 (out) "Output 6 (+) LVDS or CMOS", 49 VS (power) "3.3V Supply", 50 VS (power) "3.3V Supply", 51 VS (power) "3.3V Supply", 52 OUT1n (out) "Output 1 (-) LVPECL", 53 OUT1 (out) "Output 1 (+) LVPECL", 54 VS_LVPECL (power) "LVPECL (2.5V-3.3V) Supply", 55 OUT0n (out) "Output 0 (-) LVPECL", 56 OUT0 (out) "Output 0 (+) LVPECL", 57 VS (power) "3.3V Supply", 58 RSET "Current set resistor (nom 4.12k)", 59 GND (power) "Ground", 60 VS (power) "3.3V Supply", 61 VS (power) "3.3V Supply", 62 CPRSET (in) "CP current set resistor (nom 5.1k)", 63 REFINn (in) "PLL reference (-)", 64 REFIN (in) "PLL reference (+)", 65 GND (power) "Ground"

## IC_ADCLK846
designator U?, comment ADCLK846
ADCLK846 LVDS Clock Fanout Buffer (1.8V supply)
pins: 1 VREF, 2 CLKn (in), 3 CLK (in), 4 Vs (power) "Supply", 5 CTRL_A (in), 6 CTRL_B (in), 7 SLEEP (in), 8 OUT5n (out), 9 OUT5 (out), 10 Vs (power), 11 OUT4n (out), 12 OUT4 (out), 13 Vs (power), 14 OUT3n (out), 15 OUT3 (out), 16 Vs (power), 17 OUT2n (out), 18 OUT2 (out), 19 Vs (power), 20 OUT1n (out), 21 OUT1 (out), 22 Vs (power), 23 OUT0n (out), 24 OUT0 (out), EPAD GND (power)

## IC_ADF4351
designator U?, comment ADF4351
ADF4351 synthesizer wideband
pins: 1 CLK (in), 2 DATA (in), 3 LE (in), 4 CE (in), 5 SW (in), 6 VP (power), 7 CPOUT (out), 8 CPGND (power), 9 AGND (power), 10 AVDD (power), 11 AGNDVCO (power), 12 RFOUTA+ (out), 13 RFOUTA- (out), 14 RFOUTB+ (out), 15 RFOUTB- (out), 16 VVCO (power), 17 VVCO (power), 18 AGNDVCO (power), 19 TEMP (out), 20 VTUNE, 21 AGNDVCO (power), 22 RSET, 23 VCOM, 24 VREF (hiz), 25 LD (out), 26 PDBRF (in), 27 DGND (power), 28 DVDD (power), 29 REFIN (in), 30 MUXOUT (out), 31 SDGND (power), 32 SDVDD (power), 33 GND (power)

## IC_ADG732
designator U?, comment ADG732BCPZ
32-ch analog multiplexor
part A pins: 1 S12, 2 S11, 3 S10, 4 S9, 5 S8, 6 S7, 7 S6, 8 S5, 9 S4, 10 S3, 11 S2, 12 S1, 15 A0, 16 A1, 17 A2, 18 A3, 19 A4, 20 CS*, 21 WR*, 22 EN*, 25 S17, 26 S18, 27 S19, 28 S20, 29 S21, 30 S22, 31 S23, 32 S24, 33 S25, 34 S26, 35 S27, 36 S28, 37 S29, 38 S30, 39 S31, 40 S32, 43 D, 45 S16, 46 S15, 47 S14, 48 S13, 49 EP
part B pins: 13 VDD (power), 14 VDD (power), 23 GND, 24 VSS (power), 41 NC, 42 NC, 44 NC
part A text: 1 of 2
part B text: 2 of 2

## IC_ADM7150ACPZ-5.0-R7
designator U?, comment ADM7150ACPZ-5.0-R7
800 mA Ultralow Noise, High PSRR, RF Linear Regulator
pins: 1 VREG (in), 2 VOUT (out), 3 BYP, 4 GND, 5 REF_SENSE, 6 REF (out), 7 EN, 8 VIN (in), 9 EPAD

## IC_ADP1706ARDZ-1.2-R7
designator U?, comment ADP1706ARDZ-1.2-R7
Linear regulator 1.2V 1A
pins: 1 EN (in), 2 GND (power), 3 IN (power), 4 IN (power), 5 OUT (power), 6 OUT (power), 7 SNS (in), 8 SS (in), 9 EP (power)

## IC_ADT1-6T+
designator U?, comment ADT1-6T+
0.03 to 125MHz RF Transformer, single turn. 50 Ohms
pins: 1 PRIM, 3 PRIM DOT, 4 SEC DOT, 5 SEC CENT, 6 SEC

## IC_APS6404L
designator U?
PSRAM 64Mb with 84-133MHz QSPI, 1024 byte pages
pins: 1 CE# (in), 2 SIO1 (io), 3 SIO2 (io), 4 VSS (power), 5 SIO0 (io), 6 SCLK (in), 7 SIO3 (io), 8 VDD (power)

## IC_AVA-183A+
designator U?, comment AVA-183A+
AVA-183A+ 5GHz - 18GHz Amplifier
pins: 1 NC, 2 RFIN, 3 NC, 4 NC, 5 RFOUT (out), 6 NC, 7 VD1, 8 VD2, 9 GND (power)

## IC_BUK9K12-60EX
designator U?, comment BUK9K12-60EX
Dual channel NMOS FETs
pins: 1 S1, 2 G1, 3 S2, 4 G2, 5 D2, 6 D2, 7 D1, 8 D1

## IC_CAT93C46V
designator U?, comment CAT93C46V
CAT93C46V EEPROM 1 Kb microwire serial
pins: 1 CS (in), 2 CLK (in), 3 DI (in), 4 DO (out), 5 VSS (power), 6 ORG (in), 7 NC, 8 VCC (power)

## IC_DS4432
designator U?, comment DS4432
DS4432 current source programmable I2C
pins: 1 SDA (io), 2 SCL (io), 3 FS1 (in), 4 GND (power), 5 FS0 (in), 6 OUT0 (out), 7 OUT1 (out), 8 VCC (power)

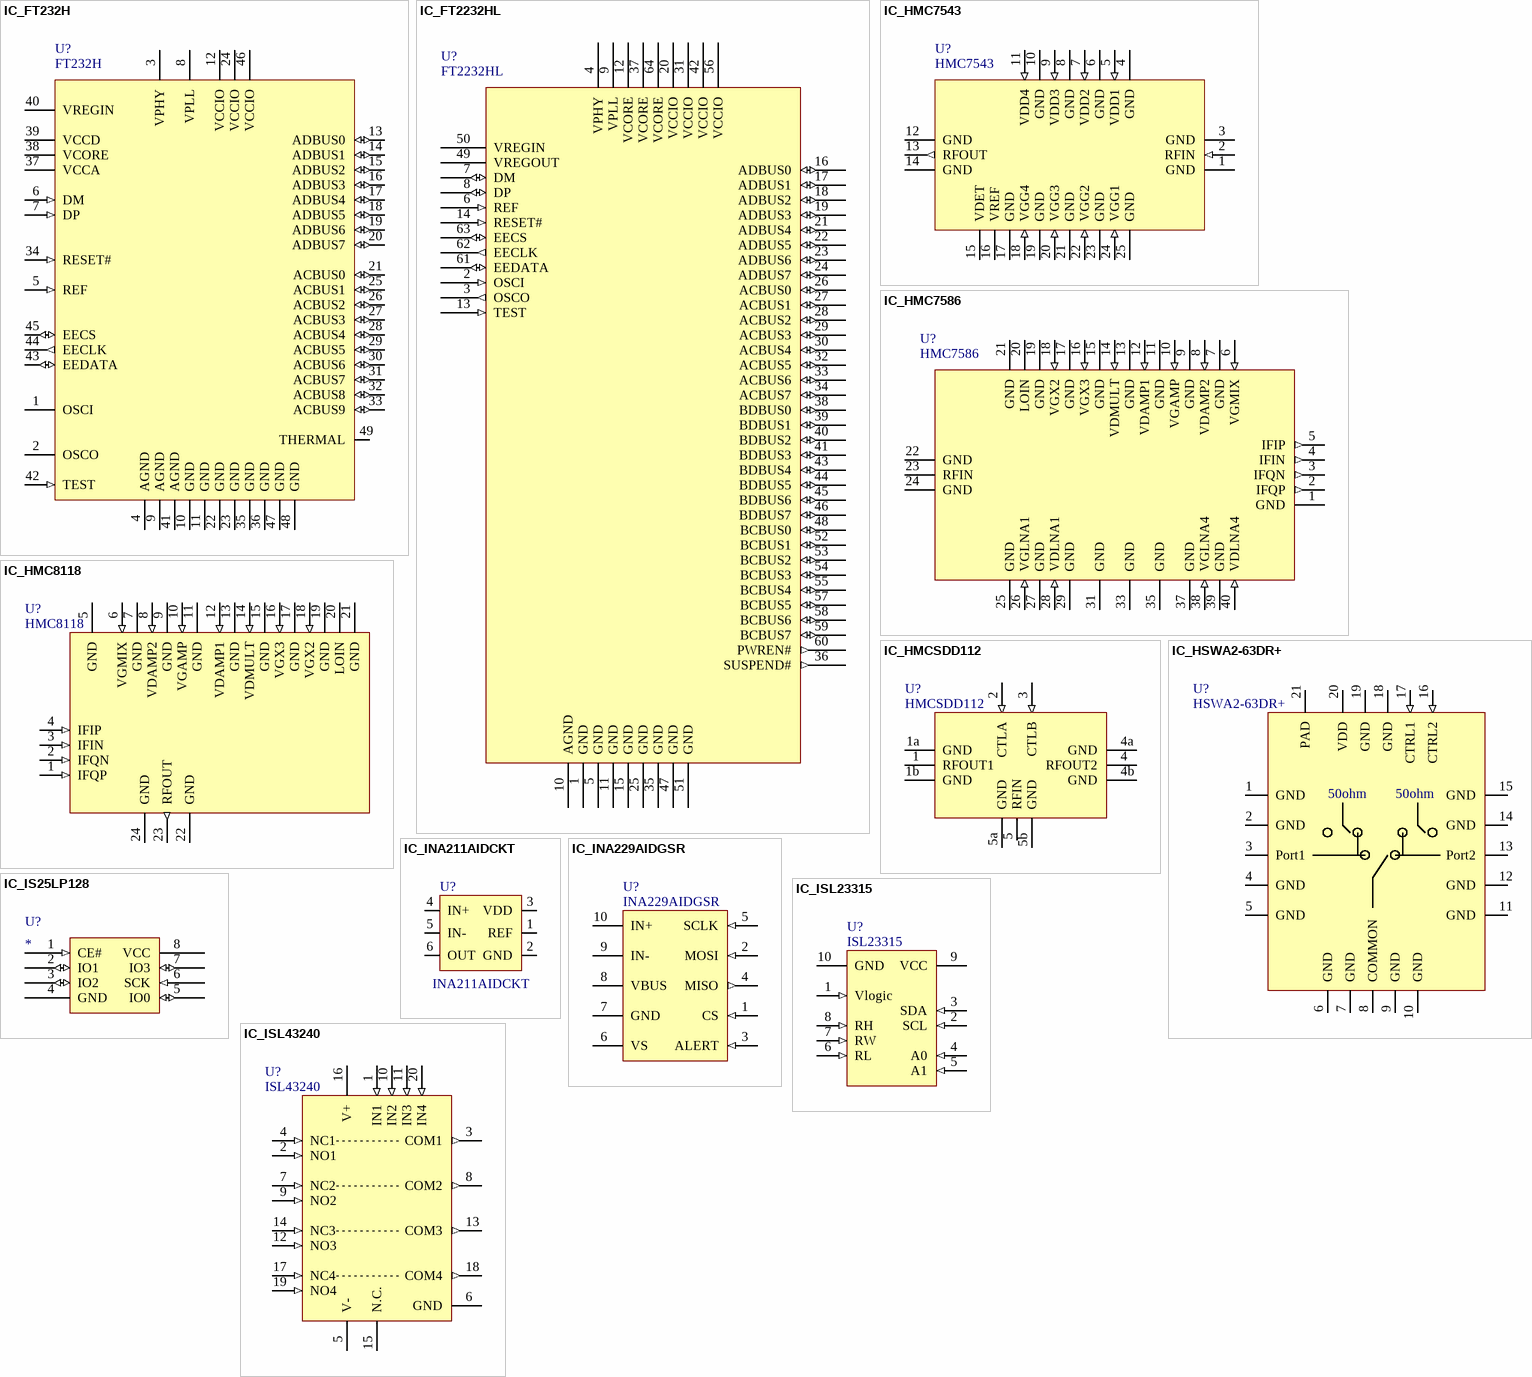
[diagram p8: symbols IC_FT232H to IC_ISL43240]

## IC_FT232H
designator U?, comment FT232H
FT232H USB to UART/FIFO single channel high speed multipurpose
pins: 1 OSCI, 2 OSCO, 3 VPHY (power), 4 AGND (power), 5 REF (in), 6 DM (in), 7 DP (in), 8 VPLL (power), 9 AGND (power), 10 GND (power), 11 GND (power), 12 VCCIO (power), 13 ADBUS0 (io), 14 ADBUS1 (io), 15 ADBUS2 (io), 16 ADBUS3 (io), 17 ADBUS4 (io), 18 ADBUS5 (io), 19 ADBUS6 (io), 20 ADBUS7 (io), 21 ACBUS0 (io), 22 GND (power), 23 GND (power), 24 VCCIO (power), 25 ACBUS1 (io), 26 ACBUS2 (io), 27 ACBUS3 (io), 28 ACBUS4 (io), 29 ACBUS5 (io), 30 ACBUS6 (io), 31 ACBUS7 (io), 32 ACBUS8 (io), 33 ACBUS9 (io), 34 RESET# (in), 35 GND (power), 36 GND (power), 37 VCCA (power), 38 VCORE (power), 39 VCCD (power), 40 VREGIN (power), 41 AGND (power), 42 TEST (in), 43 EEDATA (io), 44 EECLK (out), 45 EECS (io), 46 VCCIO (power), 47 GND (power), 48 GND (power), 49 THERMAL

## IC_FT2232HL
designator U?, comment FT2232HL
USB Hi-Speed to Dual Channel Serial UART/FIFO/JTAG/SPI/I2C IC 64-pin LQFP package
pins: 1 GND (power), 2 OSCI (in), 3 OSCO (out), 4 VPHY (power), 5 GND (power), 6 REF (in), 7 DM (io), 8 DP (io), 9 VPLL (power), 10 AGND (power), 11 GND (power), 12 VCORE (power), 13 TEST (in), 14 RESET# (in), 15 GND (power), 16 ADBUS0 (io), 17 ADBUS1 (io), 18 ADBUS2 (io), 19 ADBUS3 (io), 20 VCCIO (power), 21 ADBUS4 (io), 22 ADBUS5 (io), 23 ADBUS6 (io), 24 ADBUS7 (io), 25 GND (power), 26 ACBUS0 (io), 27 ACBUS1 (io), 28 ACBUS2 (io), 29 ACBUS3 (io), 30 ACBUS4 (io), 31 VCCIO (power), 32 ACBUS5 (io), 33 ACBUS6 (io), 34 ACBUS7 (io), 35 GND (power), 36 SUSPEND# (out), 37 VCORE (power), 38 BDBUS0 (io), 39 BDBUS1 (io), 40 BDBUS2 (io), 41 BDBUS3 (io), 42 VCCIO (power), 43 BDBUS4 (io), 44 BDBUS5 (io), 45 BDBUS6 (io), 46 BDBUS7 (io), 47 GND (power), 48 BCBUS0 (io), 49 VREGOUT (power), 50 VREGIN (power), 51 GND (power), 52 BCBUS1 (io), 53 BCBUS2 (io), 54 BCBUS3 (io), 55 BCBUS4 (io), 56 VCCIO (power), 57 BCBUS5 (io), 58 BCBUS6 (io), 59 BCBUS7 (io), 60 PWREN# (out), 61 EEDATA (io), 62 EECLK (out), 63 EECS (io), 64 VCORE (power)